# Altium schematic symbol library MSM8916_DRAM_PMIC_REF_Library.SchLib: 235 symbols (part 2 of 2)

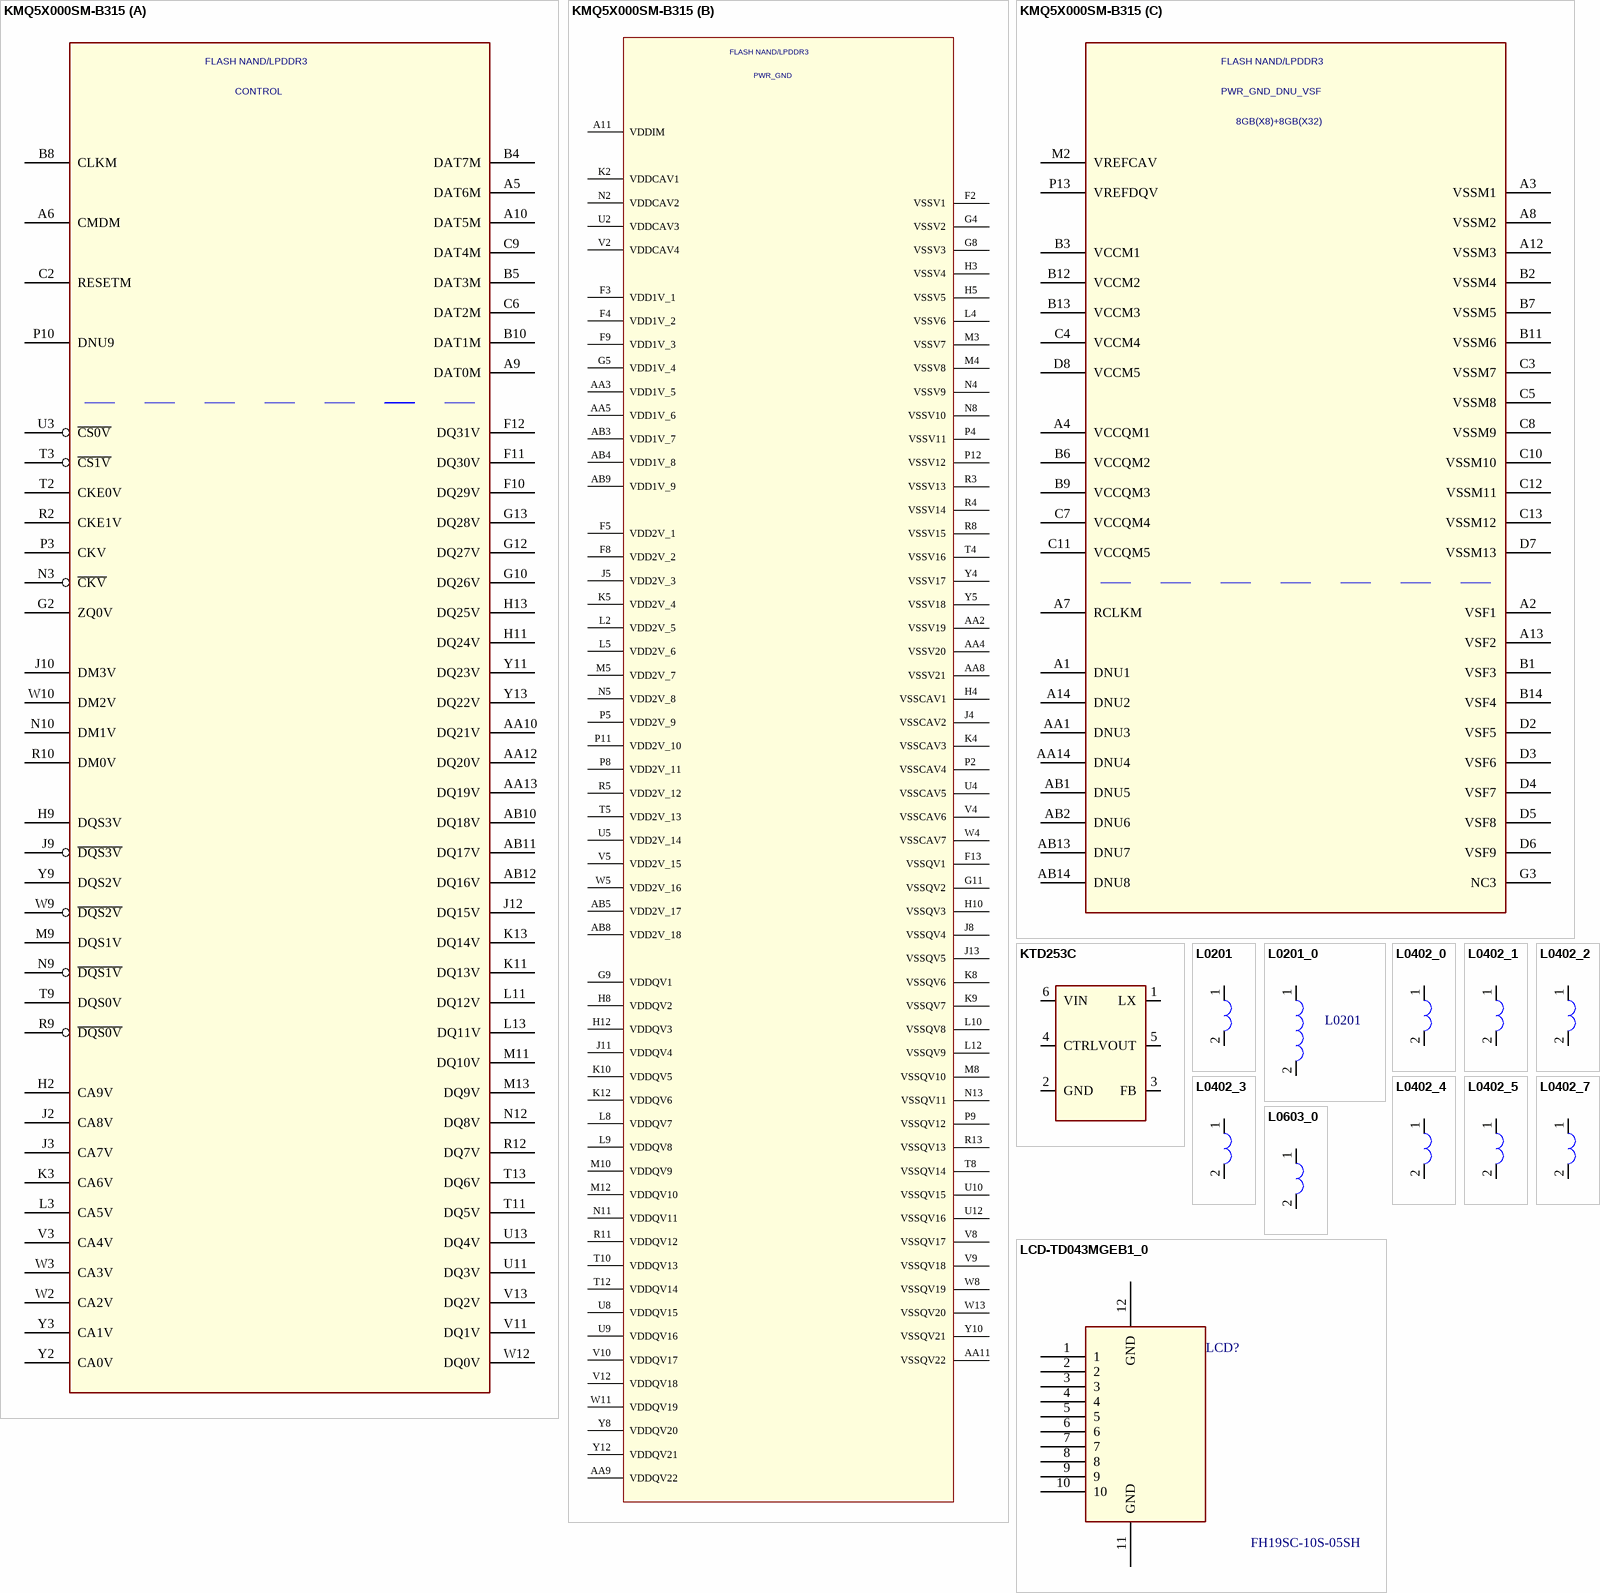
[diagram p23: symbols KMQ5X000SM-B315 to LCD-TD043MGEB1_0]

## KMQ5X000SM-B315
designator U?
footprint KMQ5X000SM-B315
part A pins: A5 DAT6M, A6 CMDM, A9 DAT0M, A10 DAT5M, AA10 DQ21V, AA12 DQ20V, AA13 DQ19V, AB10 DQ18V, AB11 DQ17V, AB12 DQ16V, B4 DAT7M, B5 DAT3M, B8 CLKM, B10 DAT1M, C2 RESETM, C6 DAT2M, C9 DAT4M, F10 DQ29V, F11 DQ30V, F12 DQ31V, G2 ZQ0V, G10 DQ26V, G12 DQ27V, G13 DQ28V, H2 CA9V, H9 DQS3V, H11 DQ24V, H13 DQ25V, J2 CA8V, J3 CA7V, J9 ~{DQS3V}, J10 DM3V, J12 DQ15V, K3 CA6V, K11 DQ13V, K13 DQ14V, L3 CA5V, L11 DQ12V, L13 DQ11V, M9 DQS1V, M11 DQ10V, M13 DQ9V, N3 ~{CKV}, N9 ~{DQS1V}, N10 DM1V, N12 DQ8V, P3 CKV, P10 DNU9, R2 CKE1V, R9 ~{DQS0V}, R10 DM0V, R12 DQ7V, T2 CKE0V, T3 ~{CS1V}, T9 DQS0V, T11 DQ5V, T13 DQ6V, U3 ~{CS0V}, U11 DQ3V, U13 DQ4V, V3 CA4V, V11 DQ1V, V13 DQ2V, W2 CA2V, W3 CA3V, W9 ~{DQS2V}, W10 DM2V, W12 DQ0V, Y2 CA0V, Y3 CA1V, Y9 DQS2V, Y11 DQ23V, Y13 DQ22V
part B pins: A11 VDDIM, AA2 VSSV19, AA3 VDD1V_5, AA4 VSSV20, AA5 VDD1V_6, AA8 VSSV21, AA9 VDDQV22, AA11 VSSQV22, AB3 VDD1V_7, AB4 VDD1V_8, AB5 VDD2V_17, AB8 VDD2V_18, AB9 VDD1V_9, F2 VSSV1, F3 VDD1V_1, F4 VDD1V_2, F5 VDD2V_1, F8 VDD2V_2, F9 VDD1V_3, F13 VSSQV1, G4 VSSV2, G5 VDD1V_4, G8 VSSV3, G9 VDDQV1, G11 VSSQV2, H3 VSSV4, H4 VSSCAV1, H5 VSSV5, H8 VDDQV2, H10 VSSQV3, H12 VDDQV3, J4 VSSCAV2, J5 VDD2V_3, J8 VSSQV4, J11 VDDQV4, J13 VSSQV5, K2 VDDCAV1, K4 VSSCAV3, K5 VDD2V_4, K8 VSSQV6, K9 VSSQV7, K10 VDDQV5, K12 VDDQV6, L2 VDD2V_5, L4 VSSV6, L5 VDD2V_6, L8 VDDQV7, L9 VDDQV8, L10 VSSQV8, L12 VSSQV9, M3 VSSV7, M4 VSSV8, M5 VDD2V_7, M8 VSSQV10, M10 VDDQV9, M12 VDDQV10, N2 VDDCAV2, N4 VSSV9, N5 VDD2V_8, N8 VSSV10, N11 VDDQV11, N13 VSSQV11, P2 VSSCAV4, P4 VSSV11, P5 VDD2V_9, P8 VDD2V_11, P9 VSSQV12, P11 VDD2V_10, P12 VSSV12, R3 VSSV13, R4 VSSV14, R5 VDD2V_12, R8 VSSV15, R11 VDDQV12, R13 VSSQV13, T4 VSSV16, T5 VDD2V_13, T8 VSSQV14, T10 VDDQV13, T12 VDDQV14, U2 VDDCAV3, U4 VSSCAV5, U5 VDD2V_14, U8 VDDQV15, U9 VDDQV16, U10 VSSQV15, U12 VSSQV16, V2 VDDCAV4, V4 VSSCAV6, V5 VDD2V_15, V8 VSSQV17, V9 VSSQV18, V10 VDDQV17, V12 VDDQV18, W4 VSSCAV7, W5 VDD2V_16, W8 VSSQV19, W11 VDDQV19, W13 VSSQV20, Y4 VSSV17, Y5 VSSV18, Y8 VDDQV20, Y10 VSSQV21, Y12 VDDQV21
part C pins: A1 DNU1, A2 VSF1, A3 VSSM1, A4 VCCQM1, A7 RCLKM, A8 VSSM2, A12 VSSM3, A13 VSF2, A14 DNU2, AA1 DNU3, AA14 DNU4, AB1 DNU5, AB2 DNU6, AB13 DNU7, AB14 DNU8, B1 VSF3, B2 VSSM4, B3 VCCM1, B6 VCCQM2, B7 VSSM5, B9 VCCQM3, B11 VSSM6, B12 VCCM2, B13 VCCM3, B14 VSF4, C3 VSSM7, C4 VCCM4, C5 VSSM8, C7 VCCQM4, C8 VSSM9, C10 VSSM10, C11 VCCQM5, C12 VSSM11, C13 VSSM12, D2 VSF5, D3 VSF6, D4 VSF7, D5 VSF8, D6 VSF9, D7 VSSM13, D8 VCCM5, G3 NC3, M2 VREFCAV, P13 VREFDQV
part A text: FLASH NAND/LPDDR3; CONTROL
part B text: FLASH NAND/LPDDR3; PWR_GND
part C text: FLASH NAND/LPDDR3; PWR_GND_DNU_VSF; 8GB(X8)+8GB(X32)

## KTD253C
designator U?
footprint TSOT23-6
pins: 1 LX, 2 GND (power), 3 FB, 4 CTRL, 5 VOUT, 6 VIN (power)

## L0201
designator L?
footprint L0201
pins: 1, 2

## L0201_0
designator L?, comment L0201
pins: 1, 2

## L0402_0
designator L?
footprint L0402
pins: 1, 2

## L0402_1
designator L?
footprint L0402
pins: 1, 2

## L0402_2
designator L?
footprint L0402
pins: 1, 2

## L0402_3
designator L?
footprint L0402
pins: 1, 2

## L0402_4
designator L?
footprint L0402
pins: 1, 2

## L0402_5
designator L?
footprint L0402
pins: 1, 2

## L0402_7
designator L?
footprint L0402
pins: 1, 2

## L0603_0
designator L?
footprint L0603
pins: 1, 2

## LCD-TD043MGEB1_0
designator LCD?, comment FH19SC-10S-05SH
pins: 1 (power), 2 (power), 3, 4 (power), 5, 6 (power), 7 (power), 8 (power), 9 (power), 10 (power), 11 GND (power), 12 GND (power)

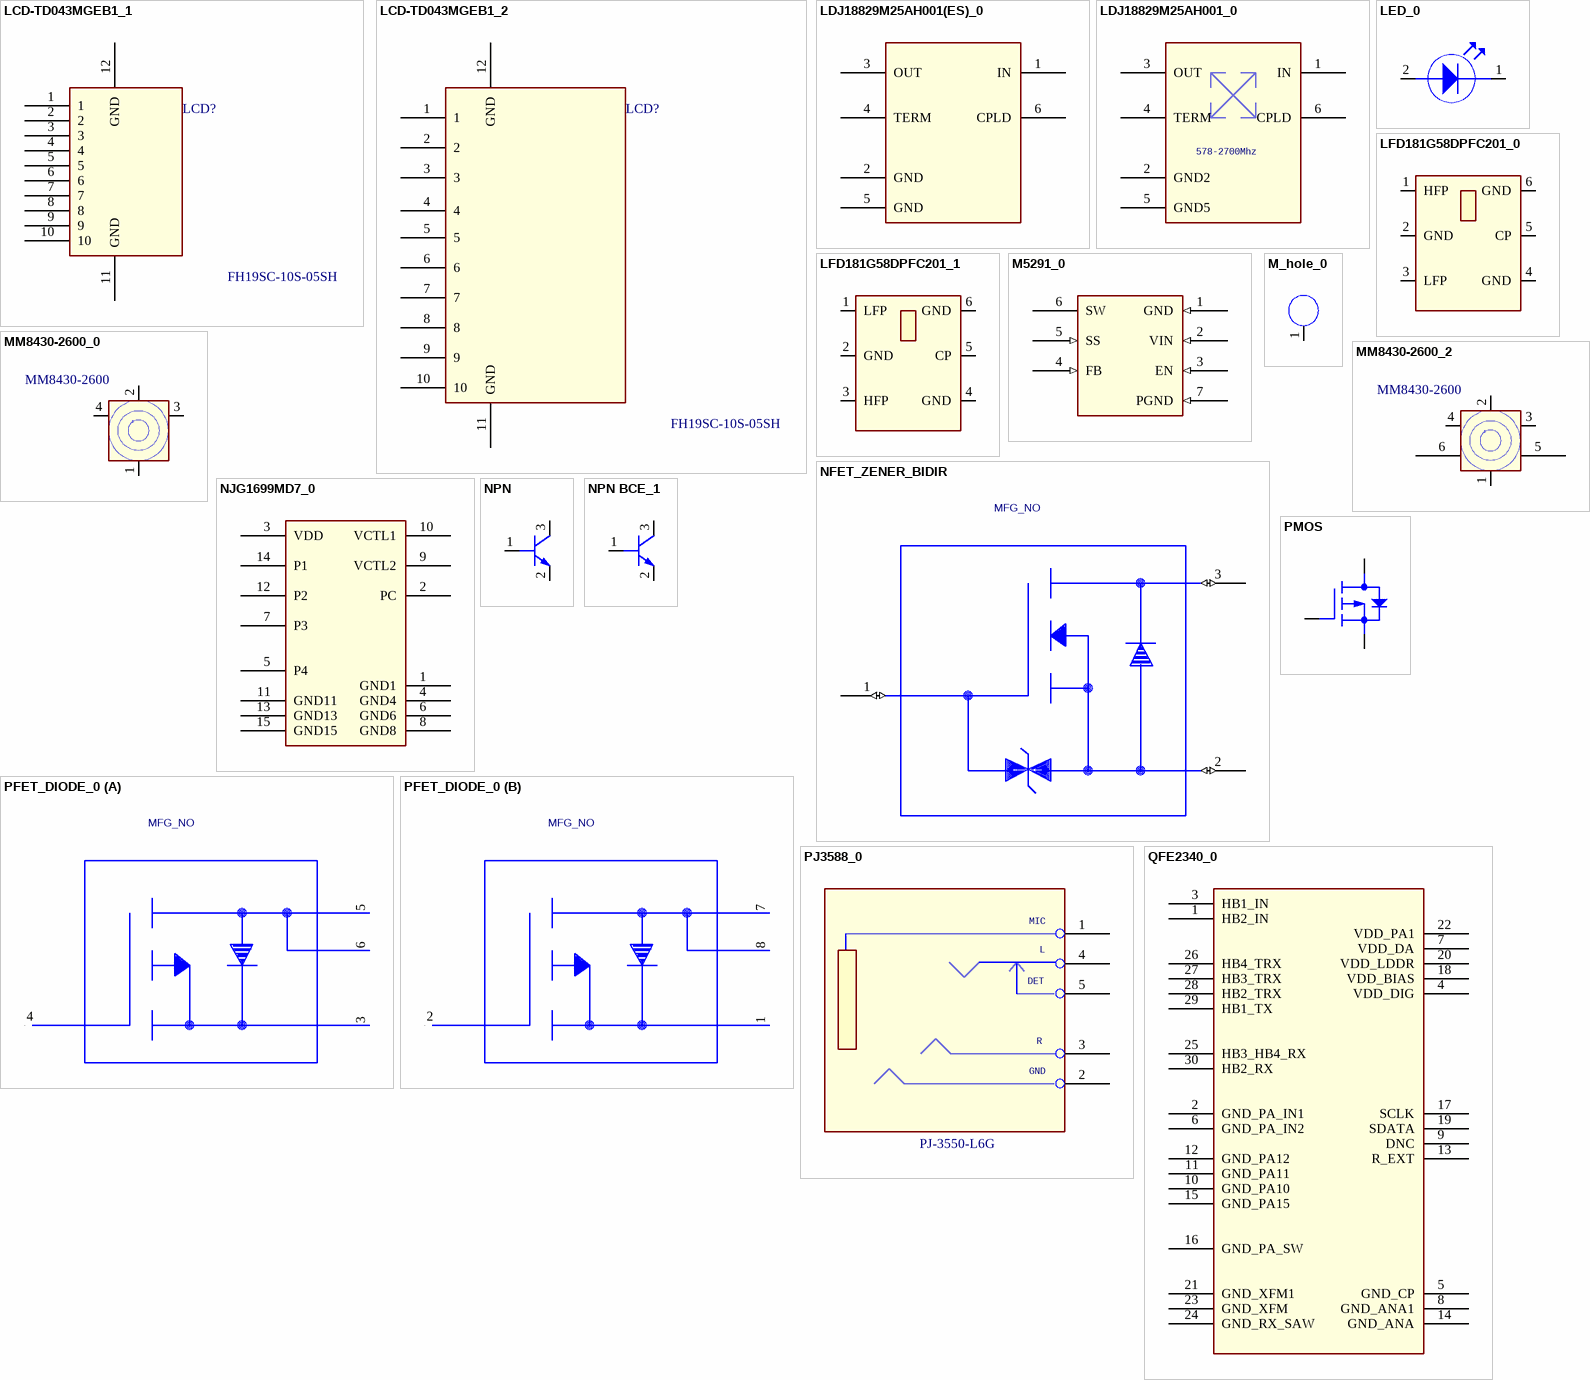
[diagram p24: symbols LCD-TD043MGEB1_1 to QFE2340_0]

## LCD-TD043MGEB1_1
designator LCD?, comment FH19SC-10S-05SH
pins: 1, 2, 3, 4, 5, 6, 7, 8, 9, 10, 11 GND (power), 12 GND (power)

## LCD-TD043MGEB1_2
designator LCD?, comment FH19SC-10S-05SH
pins: 1, 2, 3, 4, 5, 6, 7, 8, 9, 10, 11 GND (power), 12 GND (power)

## LDJ18829M25AH001(ES)_0
designator U?
pins: 1 IN, 2 GND, 3 OUT, 4 TERM, 5 GND, 6 CPLD

## LDJ18829M25AH001_0
designator U?
pins: 1 IN, 2 GND2, 3 OUT, 4 TERM, 5 GND5, 6 CPLD
text: 578-2700Mhz

## LED_0
designator D?
pins: 1 CATHODE, 2 ANODE

## LFD181G58DPFC201_0
designator U?
footprint LFD181G58DPFC201
pins: 1 HFP, 2 GND (power), 3 LFP, 4 GND (power), 5 CP, 6 GND (power)

## LFD181G58DPFC201_1
designator U?
footprint LFD181G58DPFC201
pins: 1 LFP, 2 GND (power), 3 HFP, 4 GND (power), 5 CP, 6 GND (power)

## M5291_0
designator U?
pins: 1 GND (in), 2 VIN (in), 3 EN (in), 4 FB (in), 5 SS (in), 6 SW (oc), 7 PGND (in)

## M_hole_0
designator MH?, comment M_hole  (value not drawn)
footprint SMDPAD_40
pins: 1 TP

## MM8430-2600_0
designator M?, comment MM8430-2600
pins: 1 A, 2 B, 3 GND1, 4 GND2

## MM8430-2600_2
designator M?, comment MM8430-2600
pins: 1 A, 2 B, 3 GND1, 4 GND2, 5 GND3, 6 GND4

## NFET_ZENER_BIDIR
designator REF?, comment PART_ID: MFG_NO  (hidden comment: nfet_zener_bidir)
PART_NUMBER: MCN_NO; OriginalSymbolOrigin: (-525,450); CDS_LMAN_SYM_OUTLINE: -475,450,475,-450; SYMNAME: nfet_zener_bidir; PACK_TYPE: ?
pins: 1 G (io), 2 S (io), 3 D (io)

## NJG1699MD7_0
designator U?
pins: 1 GND1, 2 PC, 3 VDD, 4 GND4, 5 P4, 6 GND6, 7 P3, 8 GND8, 9 VCTL2, 10 VCTL1, 11 GND11, 12 P2, 13 GND13, 14 P1, 15 GND15

## NPN
designator Q?
pins: 1 B, 2 E, 3 C

## NPN BCE_1
designator Q?
pins: 1 B, 2 E, 3 C

## PFET_DIODE_0
designator REF?, comment PART_ID: MFG_NO  (hidden comment: PFET_DIODE_2D1S1G)
PART_NUMBER: MCN_NO; OriginalSymbolOrigin: (-600,350); CDS_LMAN_SYM_OUTLINE: -400,350,375,-325; PACK_TYPE: ?
part A pins: 3 S (io), 4 G (io), 5 D1 (io), 6 D2 (io)
part B pins: 1 S (io), 2 G (io), 7 D1 (io), 8 D2 (io)

## PJ3588_0
designator J?, comment PJ-3550-L6G
footprint PJ3588
pins: 1, 2, 3, 4, 5
text: MIC; L; DET; R; GND

## PMOS
designator Q?
pins: 1 GATE, 2 SOURCE, 3 DRAIN

## QFE2340_0
designator U?
pins: 1 HB2_IN, 2 GND_PA_IN1, 3 HB1_IN, 4 VDD_DIG, 5 GND_CP, 6 GND_PA_IN2, 7 VDD_DA, 8 GND_ANA1, 9 DNC, 10 GND_PA10, 11 GND_PA11, 12 GND_PA12, 13 R_EXT, 14 GND_ANA, 15 GND_PA15, 16 GND_PA_SW, 17 SCLK, 18 VDD_BIAS, 19 SDATA, 20 VDD_LDDR, 21 GND_XFM1, 22 VDD_PA1, 23 GND_XFM, 24 GND_RX_SAW, 25 HB3_HB4_RX, 26 HB4_TRX, 27 HB3_TRX, 28 HB2_TRX, 29 HB1_TX, 30 HB2_RX

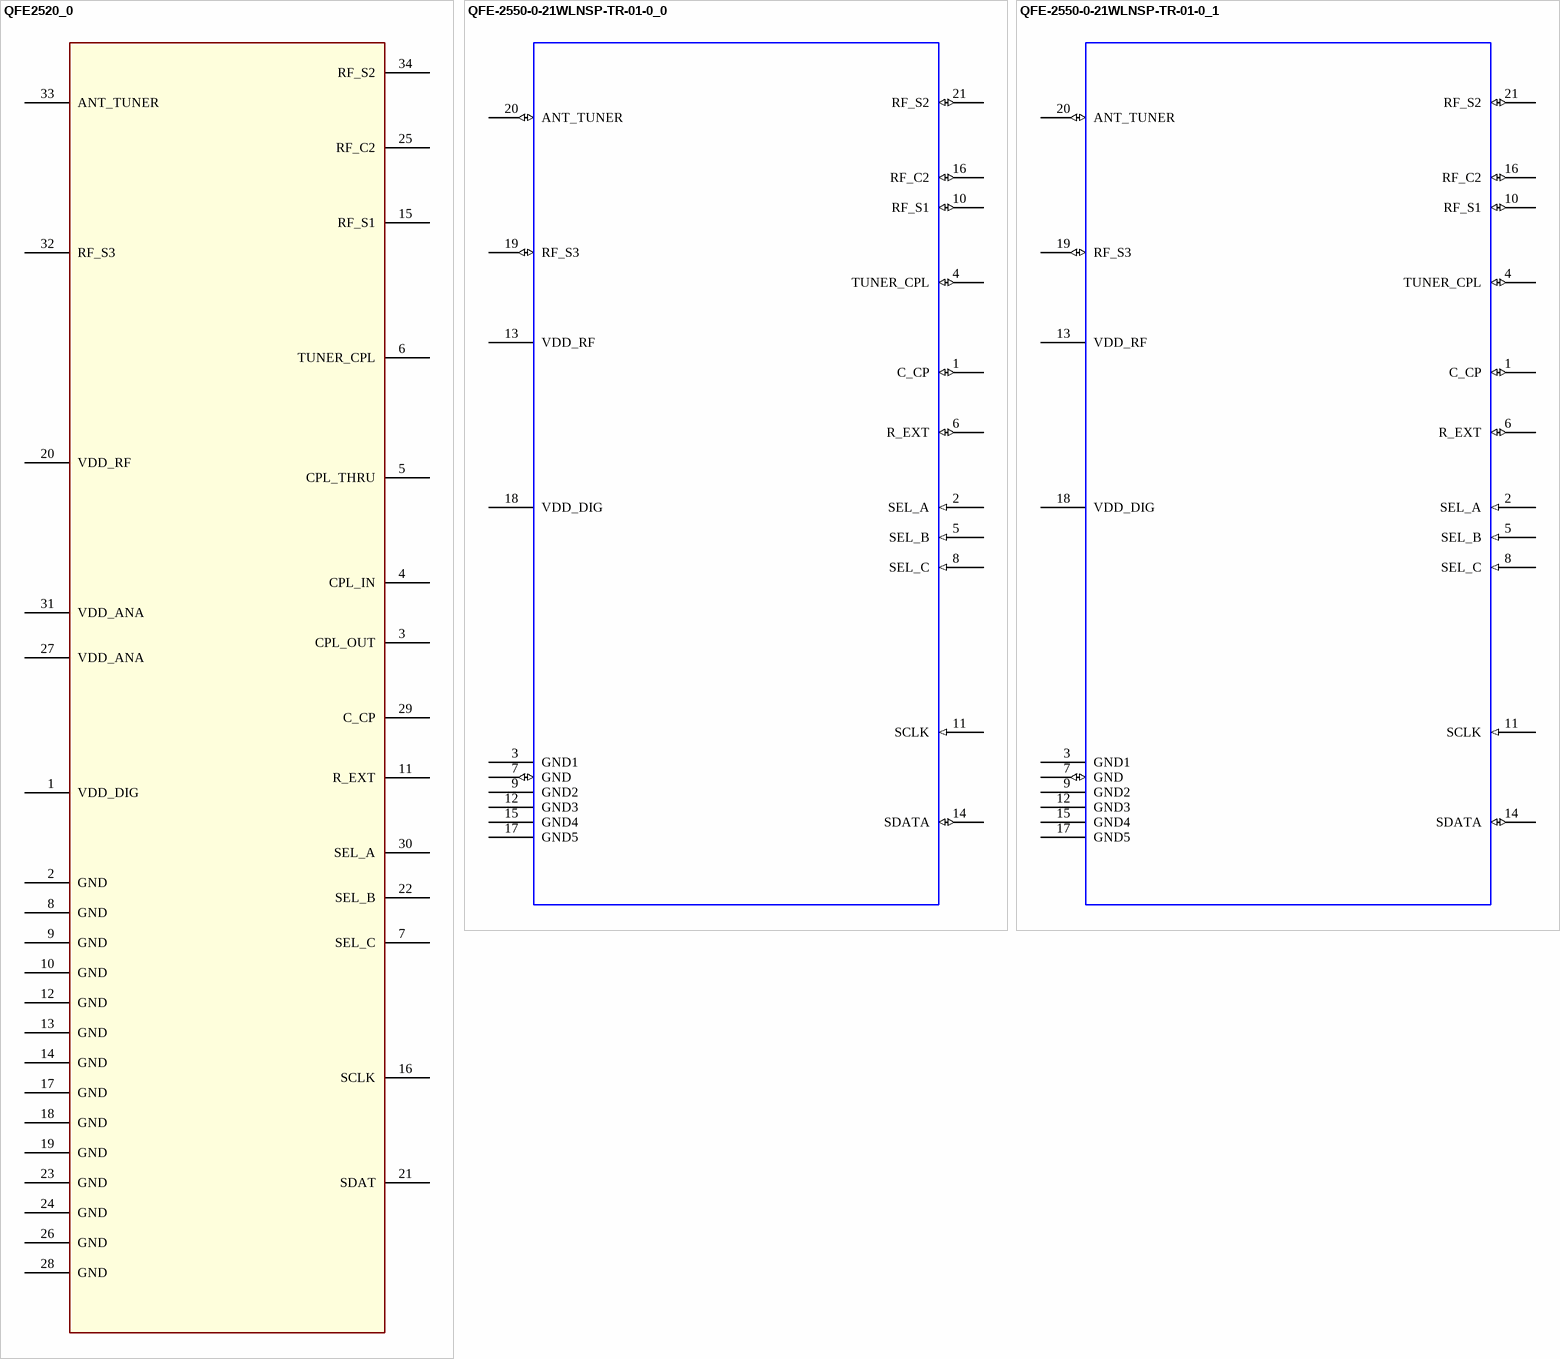
[diagram p25: symbols QFE2520_0 to QFE-2550-0-21WLNSP-TR-01-0_1]

## QFE2520_0
designator U?
footprint 34PGA86X129B
pins: 1 VDD_DIG, 2 GND (power), 3 CPL_OUT, 4 CPL_IN, 5 CPL_THRU, 6 TUNER_CPL, 7 SEL_C, 8 GND (power), 9 GND (power), 10 GND (power), 11 R_EXT, 12 GND (power), 13 GND (power), 14 GND (power), 15 RF_S1, 16 SCLK, 17 GND (power), 18 GND (power), 19 GND (power), 20 VDD_RF, 21 SDAT, 22 SEL_B, 23 GND (power), 24 GND (power), 25 RF_C2, 26 GND (power), 27 VDD_ANA (power), 28 GND (power), 29 C_CP, 30 SEL_A, 31 VDD_ANA (power), 32 RF_S3, 33 ANT_TUNER, 34 RF_S2

## QFE-2550-0-21WLNSP-TR-01-0_0
designator U?
PART_NUMBER: MCN_NO; PART_ID: MFG_NO; SYMNAME: asic_qfe1550_80_nf231_1; $LOCATION: REF?; $PATH: ?; PACK_TYPE: ?
pins: 1 C_CP (io), 2 SEL_A (in), 3 GND1 (power), 4 TUNER_CPL (io), 5 SEL_B (in), 6 R_EXT (io), 7 GND (io), 8 SEL_C (in), 9 GND2 (power), 10 RF_S1 (io), 11 SCLK (in), 12 GND3 (power), 13 VDD_RF (power), 14 SDATA (io), 15 GND4 (power), 16 RF_C2 (io), 17 GND5 (power), 18 VDD_DIG (power), 19 RF_S3 (io), 20 ANT_TUNER (io), 21 RF_S2 (io)

## QFE-2550-0-21WLNSP-TR-01-0_1
designator U?
PART_NUMBER: MCN_NO; PART_ID: MFG_NO; SYMNAME: asic_qfe1550_80_nf231_1; $LOCATION: REF?; $PATH: ?; PACK_TYPE: ?
pins: 1 C_CP (io), 2 SEL_A (in), 3 GND1 (power), 4 TUNER_CPL (io), 5 SEL_B (in), 6 R_EXT (io), 7 GND (io), 8 SEL_C (in), 9 GND2 (power), 10 RF_S1 (io), 11 SCLK (in), 12 GND3 (power), 13 VDD_RF (power), 14 SDATA (io), 15 GND4 (power), 16 RF_C2 (io), 17 GND5 (power), 18 VDD_DIG (power), 19 RF_S3 (io), 20 ANT_TUNER (io), 21 RF_S2 (io)

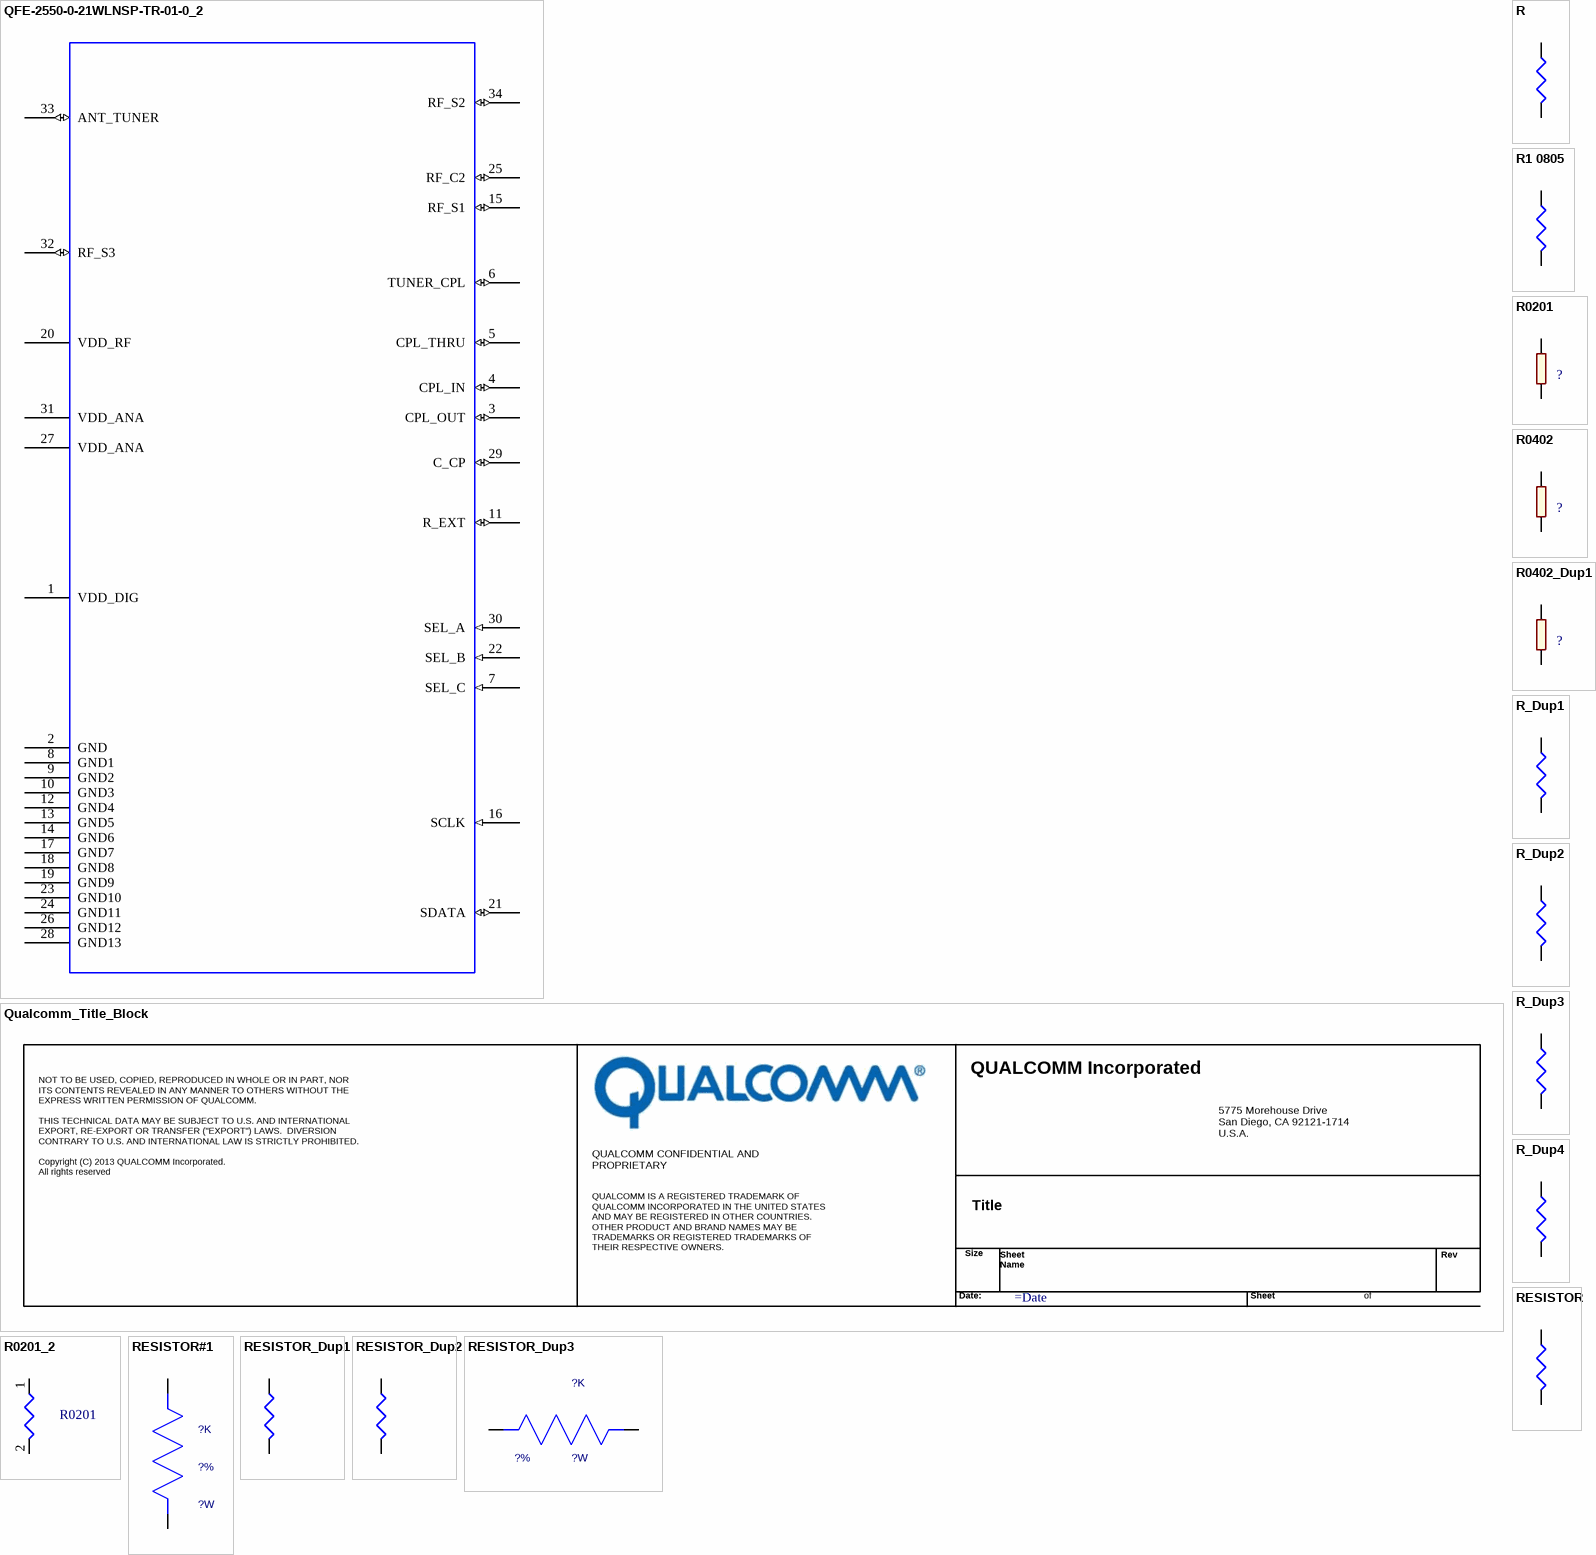
[diagram p26: symbols QFE-2550-0-21WLNSP-TR-01-0_2 to RESISTOR_Dup3]

## QFE-2550-0-21WLNSP-TR-01-0_2
designator U?
PART_NUMBER: MCN_NO; PART_ID: MFG_NO; SYMNAME: asic_qfe1550_80_nf231_1; $LOCATION: REF?; $PATH: ?; PACK_TYPE: ?
pins: 1 VDD_DIG (power), 2 GND (power), 3 CPL_OUT (io), 4 CPL_IN (io), 5 CPL_THRU (io), 6 TUNER_CPL (io), 7 SEL_C (in), 8 GND1 (power), 9 GND2 (power), 10 GND3 (power), 11 R_EXT (io), 12 GND4 (power), 13 GND5 (power), 14 GND6 (power), 15 RF_S1 (io), 16 SCLK (in), 17 GND7 (power), 18 GND8 (power), 19 GND9 (power), 20 VDD_RF (power), 21 SDATA (io), 22 SEL_B (in), 23 GND10 (power), 24 GND11 (power), 25 RF_C2 (io), 26 GND12 (power), 27 VDD_ANA (power), 28 GND13 (power), 29 C_CP (io), 30 SEL_A (in), 31 VDD_ANA (power), 32 RF_S3 (io), 33 ANT_TUNER (io), 34 RF_S2 (io)

## Qualcomm_Title_Block
designator *  (value not drawn)  (graphical)
Page Create Date: January 27, 2012; Page Modify Date: =Date
text: NOT TO BE USED, COPIED, REPRODUCED IN WHOLE OR IN PART, NOR / ITS CONTENTS REVEALED IN ANY MANNER TO OTHERS WITHOUT THE / EXPRESS WRITTEN PERMISSION OF QUALCOMM. / THIS TECHNICAL DATA MAY BE SUBJECT TO U.S. AND INTERNATIONAL / EXPORT, RE-EXPORT OR TRANSFER ("EXPORT") LAWS.  DIVERSION / CONTRARY TO U.S. AND INTERNATIONAL LAW IS STRICTLY PROHIBITED. / Copyright (C) 2013 QUALCOMM Incorporated. / All rights reserved /; QUALCOMM Incorporated; 5775 Morehouse Drive / San Diego, CA 92121-1714 / U.S.A. /; QUALCOMM CONFIDENTIAL AND / PROPRIETARY; QUALCOMM IS A REGISTERED TRADEMARK OF / QUALCOMM INCORPORATED IN THE UNITED STATES / AND MAY BE REGISTERED IN OTHER COUNTRIES. / OTHER PRODUCT AND BRAND NAMES MAY BE / TRADEMARKS OR REGISTERED TRADEMARKS OF / THEIR RESPECTIVE OWNERS.; Title; Sheet / Name; Size; Rev; Date:; Sheet; of

## R
designator R?
pins: 1, 2

## R1 0805
designator R?
footprint 0805
pins: 1, 2

## R0201
designator R?, comment ?
footprint R0201
pins: 1 PIN1, 2 PIN2

## R0201_2
designator R?, comment R0201
pins: 1, 2

## R0402
designator R?, comment ?
footprint R0402
pins: 1 PIN1, 2 PIN2

## R0402_Dup1
designator R?, comment ?
footprint R0402
pins: 1 PIN1, 2 PIN2

## R_Dup1
designator R?
pins: 1, 2

## R_Dup2
designator R?
pins: 1, 2

## R_Dup3
designator R?
pins: 1, 2

## R_Dup4
designator R?
pins: 1, 2

## RESISTOR
designator R?
pins: 1, 2

## RESISTOR#1
designator R?, comment ?K  Tolerance: ?%  POWER: ?W
PART_NUMBER: MCN_NO; PART_ID: MFG_NO; OriginalSymbolOrigin: (-50,200); SYMNAME: resistor; CDS_LMAN_SYM_OUTLINE: -50,150,50,-150; PACK_TYPE: ?
pins: 1 POS (io), 2 NEG (io)

## RESISTOR_Dup1
designator R?
pins: 1, 2

## RESISTOR_Dup2
designator R?
pins: 1, 2

## RESISTOR_Dup3
designator R?, comment ?K  Tolerance: ?%  POWER: ?W
PART_NUMBER: MCN_NO; PART_ID: MFG_NO; OriginalSymbolOrigin: (-200,50); SYMNAME: resistor; CDS_LMAN_SYM_OUTLINE: -150,50,150,-50; PACK_TYPE: ?
pins: 1 POS (io), 2 NEG (io)

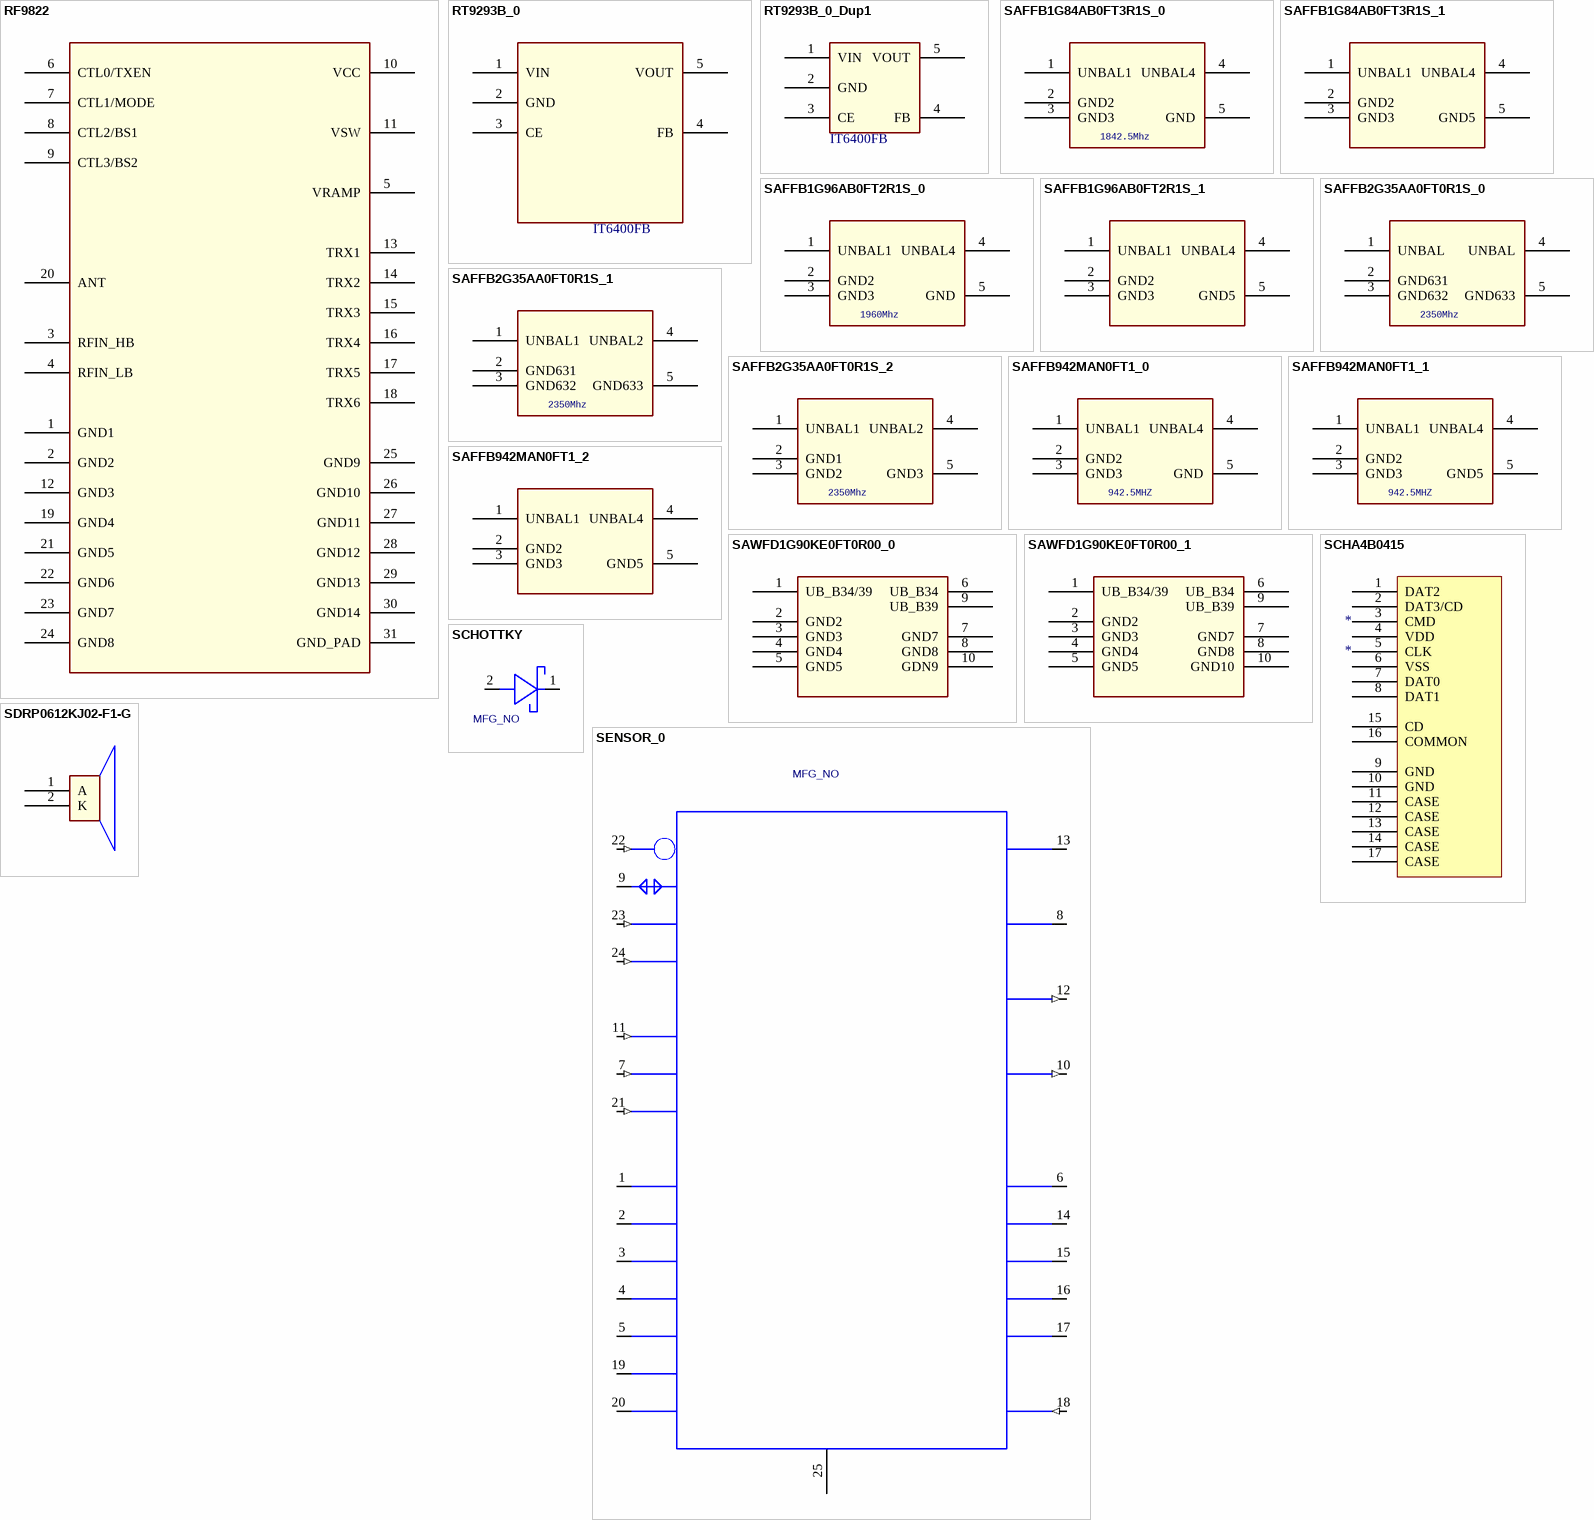
[diagram p27: symbols RF9822 to SENSOR_0]

## RF9822
designator U?
pins: 1 GND1, 2 GND2, 3 RFIN_HB, 4 RFIN_LB, 5 VRAMP, 6 CTL0/TXEN, 7 CTL1/MODE, 8 CTL2/BS1, 9 CTL3/BS2, 10 VCC, 11 VSW, 12 GND3, 13 TRX1, 14 TRX2, 15 TRX3, 16 TRX4, 17 TRX5, 18 TRX6, 19 GND4, 20 ANT, 21 GND5, 22 GND6, 23 GND7, 24 GND8, 25 GND9, 26 GND10, 27 GND11, 28 GND12, 29 GND13, 30 GND14, 31 GND_PAD

## RT9293B_0
designator U?, comment IT6400FB
footprint TSOT-23-6
pins: 1 VIN, 2 GND, 3 CE, 4 FB, 5 VOUT

## RT9293B_0_Dup1
designator U?, comment IT6400FB
footprint TSOT-23-6
pins: 1 VIN, 2 GND, 3 CE, 4 FB, 5 VOUT

## SAFFB1G84AB0FT3R1S_0
designator U?
pins: 1 UNBAL1, 2 GND2, 3 GND3, 4 UNBAL4, 5 GND
text: 1842.5Mhz

## SAFFB1G84AB0FT3R1S_1
designator U?
pins: 1 UNBAL1, 2 GND2, 3 GND3, 4 UNBAL4, 5 GND5

## SAFFB1G96AB0FT2R1S_0
designator U?
pins: 1 UNBAL1, 2 GND2, 3 GND3, 4 UNBAL4, 5 GND
text: 1960Mhz

## SAFFB1G96AB0FT2R1S_1
designator U?
pins: 1 UNBAL1, 2 GND2, 3 GND3, 4 UNBAL4, 5 GND5

## SAFFB2G35AA0FT0R1S_0
designator U?
pins: 1 UNBAL, 2 GND631, 3 GND632, 4 UNBAL, 5 GND633
text: 2350Mhz

## SAFFB2G35AA0FT0R1S_1
designator U?
pins: 1 UNBAL1, 2 GND631, 3 GND632, 4 UNBAL2, 5 GND633
text: 2350Mhz

## SAFFB2G35AA0FT0R1S_2
designator U?
pins: 1 UNBAL1, 2 GND1, 3 GND2, 4 UNBAL2, 5 GND3
text: 2350Mhz

## SAFFB942MAN0FT1_0
designator U?
pins: 1 UNBAL1, 2 GND2, 3 GND3, 4 UNBAL4, 5 GND
text: 942.5MHZ

## SAFFB942MAN0FT1_1
designator U?
pins: 1 UNBAL1, 2 GND2, 3 GND3, 4 UNBAL4, 5 GND5
text: 942.5MHZ

## SAFFB942MAN0FT1_2
designator U?
pins: 1 UNBAL1, 2 GND2, 3 GND3, 4 UNBAL4, 5 GND5

## SAWFD1G90KE0FT0R00_0
designator U?
pins: 1 UB_B34/39, 2 GND2, 3 GND3, 4 GND4, 5 GND5, 6 UB_B34, 7 GND7, 8 GND8, 9 UB_B39, 10 GDN9

## SAWFD1G90KE0FT0R00_1
designator U?
pins: 1 UB_B34/39, 2 GND2, 3 GND3, 4 GND4, 5 GND5, 6 UB_B34, 7 GND7, 8 GND8, 9 UB_B39, 10 GND10

## SCHA4B0415
designator *
pins: 1 DAT2, 2 DAT3/CD, 3 CMD, 4 VDD, 5 CLK, 6 VSS, 7 DAT0, 8 DAT1, 9 GND, 10 GND, 11 CASE, 12 CASE, 13 CASE, 14 CASE, 15 CD, 16 COMMON, 17 CASE

## SCHOTTKY
designator REF?  PART_ID: MFG_NO  (hidden comment: SCHOTTKY)
PART_NUMBER: MCN_NO; OriginalSymbolOrigin: (-100,100); CDS_LMAN_SYM_OUTLINE: -50,75,50,-75; SYMNAME: SCHOTTKY; PACK_TYPE: ?
pins: 1 NEG (io), 2 POS (io)

## SDRP0612KJ02-F1-G
designator J?
footprint SDRP0612KJ02-F1-G
pins: 1 A, 2 K

## SENSOR_0
designator REF?, comment PART_ID: MFG_NO  (hidden comment: sensor_6880)
PART_NUMBER: MCN_NO; OriginalSymbolOrigin: (-700,1125); CDS_LMAN_SYM_OUTLINE: -550,1125,550,-1000; SYMNAME: sensor_6880; PACK_TYPE: ?
pins: 1 NC1 (io), 2 NC2 (io), 3 NC3 (io), 4 NC4 (io), 5 NC5 (io), 6 NC6 (io), 7 AUX_CL (in), 8 VDDIO (power), 9 SDO_AD0 (io), 10 REGOUT (out), 11 FSYNC (in), 12 INT (out), 13 VDD (power), 14 NC7 (io), 15 NC8 (io), 16 NC9 (io), 17 NC10 (io), 18 GND (in), 19 RESV2 (io), 20 RESV1 (io), 21 AUX_DA (in), 22 NCS (in), 23 SCL_SCLK (in), 24 SDA_SDI (in), 25 GND2

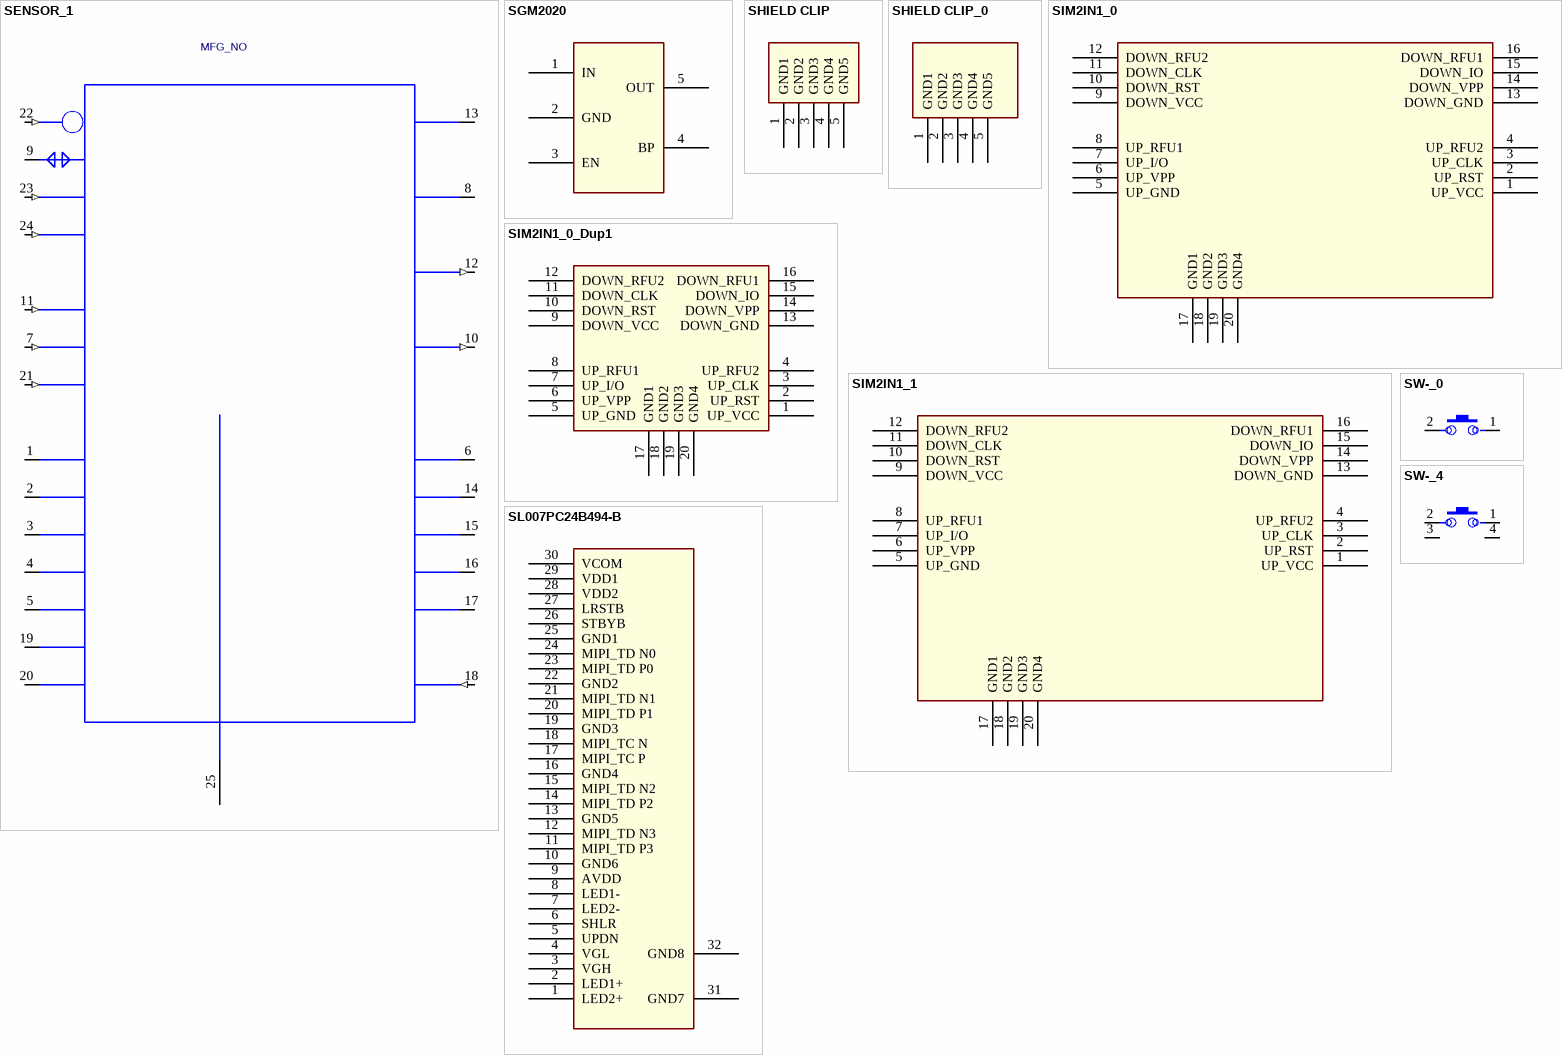
[diagram p28: symbols SENSOR_1 to SW-_4]

## SENSOR_1
designator REF?, comment PART_ID: MFG_NO  (hidden comment: sensor_6880)
PART_NUMBER: MCN_NO; CDS_LMAN_SYM_OUTLINE: -550,1125,550,-1000; OriginalSymbolOrigin: (-700,1125); PACK_TYPE: ?; SYMNAME: sensor_6880
pins: 1 NC1 (io), 2 NC2 (io), 3 NC3 (io), 4 NC4 (io), 5 NC5 (io), 6 NC6 (io), 7 AUX_CL (in), 8 VDDIO (power), 9 SDO_AD0 (io), 10 REGOUT (out), 11 FSYNC (in), 12 INT (out), 13 VDD (power), 14 NC7 (io), 15 NC8 (io), 16 NC9 (io), 17 NC10 (io), 18 GND (in), 19 RESV2 (io), 20 RESV1 (io), 21 AUX_DA (in), 22 NCS (in), 23 SCL_SCLK (in), 24 SDA_SDI (in), 25 GND2

## SGM2020
designator U?
footprint SGM2020
pins: 1 IN, 2 GND, 3 EN, 4 BP, 5 OUT

## SHIELD CLIP
designator J?
footprint ELJ-KS270013
pins: 1 GND1, 2 GND2, 3 GND3, 4 GND4, 5 GND5

## SHIELD CLIP_0
designator J?
footprint ELJ-KS270013
pins: 1 GND1, 2 GND2, 3 GND3, 4 GND4, 5 GND5

## SIM2IN1_0
designator J?
footprint V30SIM_H3_0MM_
pins: 1 UP_VCC, 2 UP_RST, 3 UP_CLK, 4 UP_RFU2, 5 UP_GND, 6 UP_VPP, 7 UP_I/O, 8 UP_RFU1, 9 DOWN_VCC, 10 DOWN_RST, 11 DOWN_CLK, 12 DOWN_RFU2, 13 DOWN_GND, 14 DOWN_VPP, 15 DOWN_IO, 16 DOWN_RFU1, 17 GND1, 18 GND2, 19 GND3, 20 GND4

## SIM2IN1_0_Dup1
designator J?
footprint V30SIM_H3_0MM_
pins: 1 UP_VCC, 2 UP_RST, 3 UP_CLK, 4 UP_RFU2, 5 UP_GND, 6 UP_VPP, 7 UP_I/O, 8 UP_RFU1, 9 DOWN_VCC, 10 DOWN_RST, 11 DOWN_CLK, 12 DOWN_RFU2, 13 DOWN_GND, 14 DOWN_VPP, 15 DOWN_IO, 16 DOWN_RFU1, 17 GND1, 18 GND2, 19 GND3, 20 GND4

## SIM2IN1_1
designator J?
footprint V30SIM_H3_0MM_
pins: 1 UP_VCC, 2 UP_RST, 3 UP_CLK, 4 UP_RFU2, 5 UP_GND, 6 UP_VPP, 7 UP_I/O, 8 UP_RFU1, 9 DOWN_VCC, 10 DOWN_RST, 11 DOWN_CLK, 12 DOWN_RFU2, 13 DOWN_GND, 14 DOWN_VPP, 15 DOWN_IO, 16 DOWN_RFU1, 17 GND1, 18 GND2, 19 GND3, 20 GND4

## SL007PC24B494-B
designator J?
footprint ELJ_L50130_30PIN_0_5PJ_H2_0
pins: 1 LED2+, 2 LED1+, 3 VGH, 4 VGL, 5 UPDN, 6 SHLR, 7 LED2-, 8 LED1-, 9 AVDD, 10 GND6, 11 MIPI_TD P3, 12 MIPI_TD N3, 13 GND5, 14 MIPI_TD P2, 15 MIPI_TD N2, 16 GND4, 17 MIPI_TC P, 18 MIPI_TC N, 19 GND3, 20 MIPI_TD P1, 21 MIPI_TD N1, 22 GND2, 23 MIPI_TD P0, 24 MIPI_TD N0, 25 GND1, 26 STBYB, 27 LRSTB, 28 VDD2, 29 VDD1, 30 VCOM, 31 GND7, 32 GND8

## SW-_0
designator S?
footprint KEY0.3
pins: 1, 2

## SW-_4
designator S?
footprint KEY0.3
pins: 1, 2, 3, 4

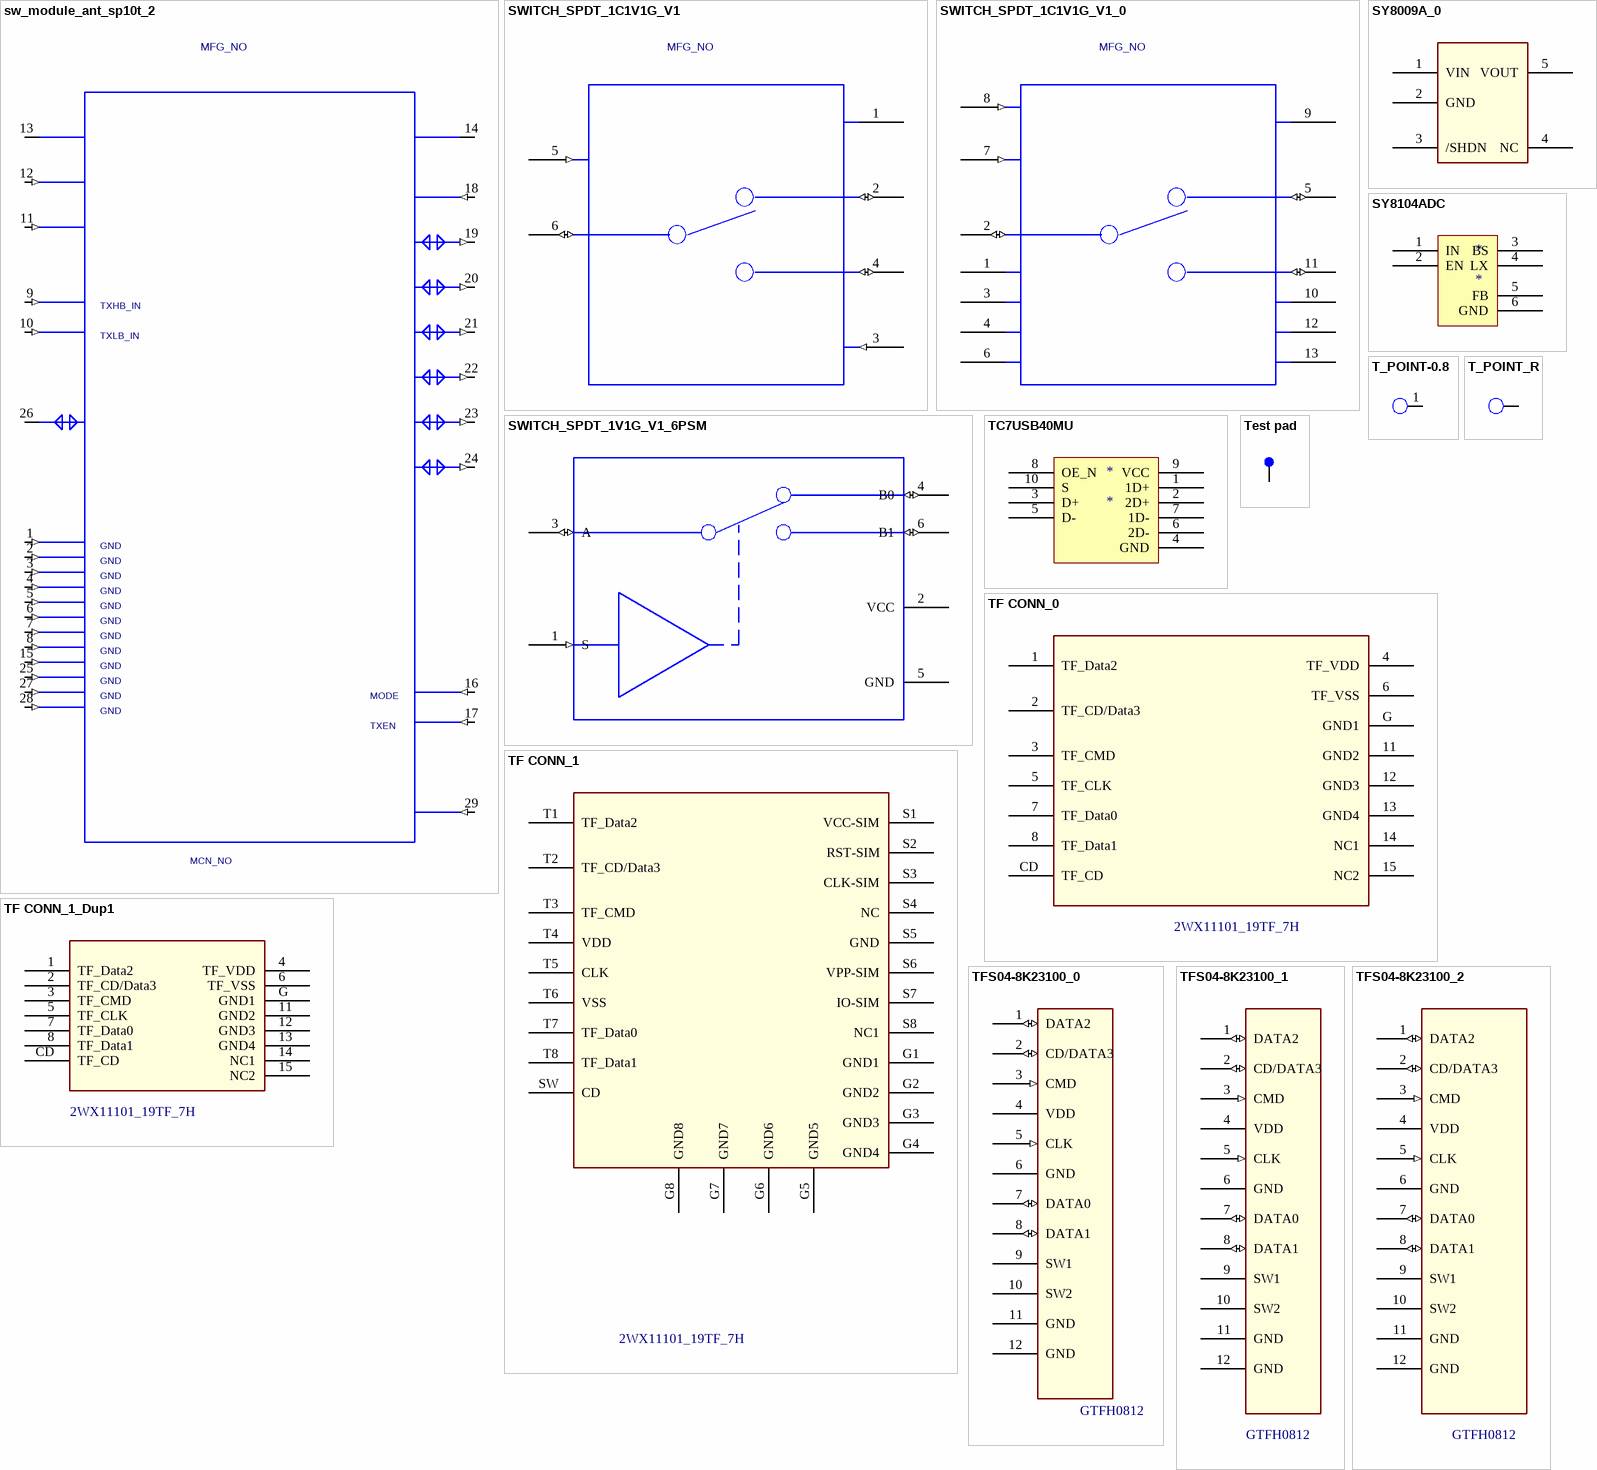
[diagram p29: symbols sw_module_ant_sp10t_2 to TFS04-8K23100_2]

## sw_module_ant_sp10t_2
designator REF?, comment PART_ID: MFG_NO  PART_NUMBER: MCN_NO  (hidden comment: SWITCH, RF SP10T DIVERSITY WITH MIPI ROHS)
CDS_LMAN_SYM_OUTLINE: -550,1375,550,-1125; SYMNAME: sw_module_ant_sp10t_1p4g1slg; OriginalSymbolOrigin: (-700,1375); PACK_TYPE: ?
footprint 21PSM96X96N157
pins: 1 GND1 (in), 2 GND2 (in), 3 GND3 (in), 4 GND4 (in), 5 GND5 (in), 6 GND6 (in), 7 GND7 (in), 8 GND8 (in), 9 TXHB_IN (in), 10 TXLB_IN (in), 11 BS2 (in), 12 BS1 (in), 13 VBATT (power), 14 VCC (power), 15 GND9 (in), 16 MODE (in), 17 TXEN (in), 18 VRAMP (in), 19 RF1 (out), 20 RF2 (out), 21 RF3 (out), 22 RF4 (out), 23 RF5 (out), 24 RF6 (out), 25 GND10 (in), 26 ANT (io), 27 GND11 (in), 28 GND12 (in), 29 GNDSLUG (in)
text: GND

## SWITCH_SPDT_1C1V1G_V1
designator REF?, comment PART_ID: MFG_NO  (hidden comment: switch_spdt_1c1v1g_v1)
PART_NUMBER: MCN_NO; OriginalSymbolOrigin: (-475,525); CDS_LMAN_SYM_OUTLINE: -425,500,425,-500; SYMNAME: switch_spdt_1c1v1g_v1; PACK_TYPE: ?
pins: 1 VDD (power), 2 P1 (io), 3 GND (in), 4 P2 (io), 5 VCTL (in), 6 PC (io)

## SWITCH_SPDT_1C1V1G_V1_0
designator REF?, comment PART_ID: MFG_NO  (hidden comment: switch_spdt_1c1v1g_v1)
PART_NUMBER: MCN_NO; OriginalSymbolOrigin: (-475,525); CDS_LMAN_SYM_OUTLINE: -425,500,425,-500; SYMNAME: switch_spdt_1c1v1g_v1; PACK_TYPE: ?
pins: 1 GND (power), 2 PC (io), 3 GND (power), 4 GND (power), 5 P1 (io), 6 GND (power), 7 VCTL (in), 8 EN (in), 9 VDD (power), 10 GND (power), 11 RF2 (io), 12 GND (power), 13 GND (power)

## SWITCH_SPDT_1V1G_V1_6PSM
designator U?
PART_ID: MFG_NO; PART_NUMBER: MCN_NO; $LOCATION: REF?; SYMNAME: switch_spdt_1v1g_v1; $PATH: ?; PACK_TYPE: ?
pins: 1 S (in), 2 VCC (power), 3 A (io), 4 B0 (io), 5 GND (power), 6 B1 (io)

## SY8009A_0
designator U?
footprint SOT23-5
pins: 1 VIN (power), 2 GND (power), 3 /SHDN, 4 NC, 5 VOUT

## SY8104ADC
designator *
pins: 1 IN, 2 EN, 3 BS, 4 LX, 5 FB, 6 GND

## T_POINT-0.8
designator TP?  (value not drawn)
Test point Pads 0.8mm; Reference Price: $0; Package: TP_08
footprint TP_08
pins: 1 TP

## T_POINT_R
designator TP?
pins: 1 TP

## TC7USB40MU
designator *
pins: 1 1D+, 2 2D+, 3 D+, 4 GND, 5 D-, 6 2D-, 7 1D-, 8 OE_N, 9 VCC, 10 S

## Test pad
designator TP?  (value not drawn)
pins: 1 Pin1

## TF CONN_0
designator CON?, comment 2WX11101_19TF_7H
CONN,I/O,Flash Memory Card,R/A,Bla,0.9mm,10u,G,SMD-8; Part Number: 340438J00-600-G; Mfr.: FOXCONN; PCB Footprint: sd_cardh19; Level: ?; Part Type: connector; Source: ?; Mfr.PartNumber: 2WX11101_19TF_7H; No Stuff: ?; Bottom: ?; Top: ?
footprint ELJ_YHTKP-1915-W_PHS_H1_9
pins: 1 TF_Data2, 2 TF_CD/Data3, 3 TF_CMD, 4 TF_VDD, 5 TF_CLK, 6 TF_VSS, 7 TF_Data0, 8 TF_Data1, 11 GND2, 12 GND3, 13 GND4, 14 NC1, 15 NC2, CD TF_CD, G GND1

## TF CONN_1
designator CON?, comment 2WX11101_19TF_7H
CONN,I/O,Flash Memory Card,R/A,Bla,0.9mm,10u,G,SMD-8; Part Number: 340438J00-600-G; Mfr.: FOXCONN; PCB Footprint: sd_cardh19; Level: ?; Part Type: connector; Source: ?; Mfr.PartNumber: 2WX11101_19TF_7H; No Stuff: ?; Bottom: ?; Top: ?
footprint ELJ_YHTKP-1915-W_PHS_H1_9
pins: G1 GND1, G2 GND2, G3 GND3, G4 GND4, G5 GND5, G6 GND6, G7 GND7, G8 GND8, S1 VCC-SIM, S2 RST-SIM, S3 CLK-SIM, S4 NC, S5 GND, S6 VPP-SIM, S7 IO-SIM, S8 NC1, SW CD, T1 TF_Data2, T2 TF_CD/Data3, T3 TF_CMD, T4 VDD, T5 CLK, T6 VSS, T7 TF_Data0, T8 TF_Data1

## TF CONN_1_Dup1
designator CON?, comment 2WX11101_19TF_7H
CONN,I/O,Flash Memory Card,R/A,Bla,0.9mm,10u,G,SMD-8; Part Number: 340438J00-600-G; Mfr.: FOXCONN; PCB Footprint: sd_cardh19; Level: ?; Part Type: connector; Source: ?; Mfr.PartNumber: 2WX11101_19TF_7H; No Stuff: ?; Bottom: ?; Top: ?
footprint ELJ_YHTKP-1915-W_PHS_H1_9
pins: 1 TF_Data2, 2 TF_CD/Data3, 3 TF_CMD, 4 TF_VDD, 5 TF_CLK, 6 TF_VSS, 7 TF_Data0, 8 TF_Data1, 11 GND2, 12 GND3, 13 GND4, 14 NC1, 15 NC2, CD TF_CD, G GND1

## TFS04-8K23100_0
designator J?, comment GTFH0812
footprint TFS04-8K23100
pins: 1 DATA2 (io), 2 CD/DATA3 (io), 3 CMD (in), 4 VDD (power), 5 CLK (in), 6 GND (power), 7 DATA0 (io), 8 DATA1 (io), 9 SW1, 10 SW2, 11 GND (power), 12 GND (power)

## TFS04-8K23100_1
designator J?, comment GTFH0812
footprint TFS04-8K23100
pins: 1 DATA2 (io), 2 CD/DATA3 (io), 3 CMD (in), 4 VDD (power), 5 CLK (in), 6 GND (power), 7 DATA0 (io), 8 DATA1 (io), 9 SW1, 10 SW2, 11 GND (power), 12 GND (power)

## TFS04-8K23100_2
designator J?, comment GTFH0812
footprint TFS04-8K23100
pins: 1 DATA2 (io), 2 CD/DATA3 (io), 3 CMD (in), 4 VDD (power), 5 CLK (in), 6 GND (power), 7 DATA0 (io), 8 DATA1 (io), 9 SW1, 10 SW2, 11 GND (power), 12 GND (power)

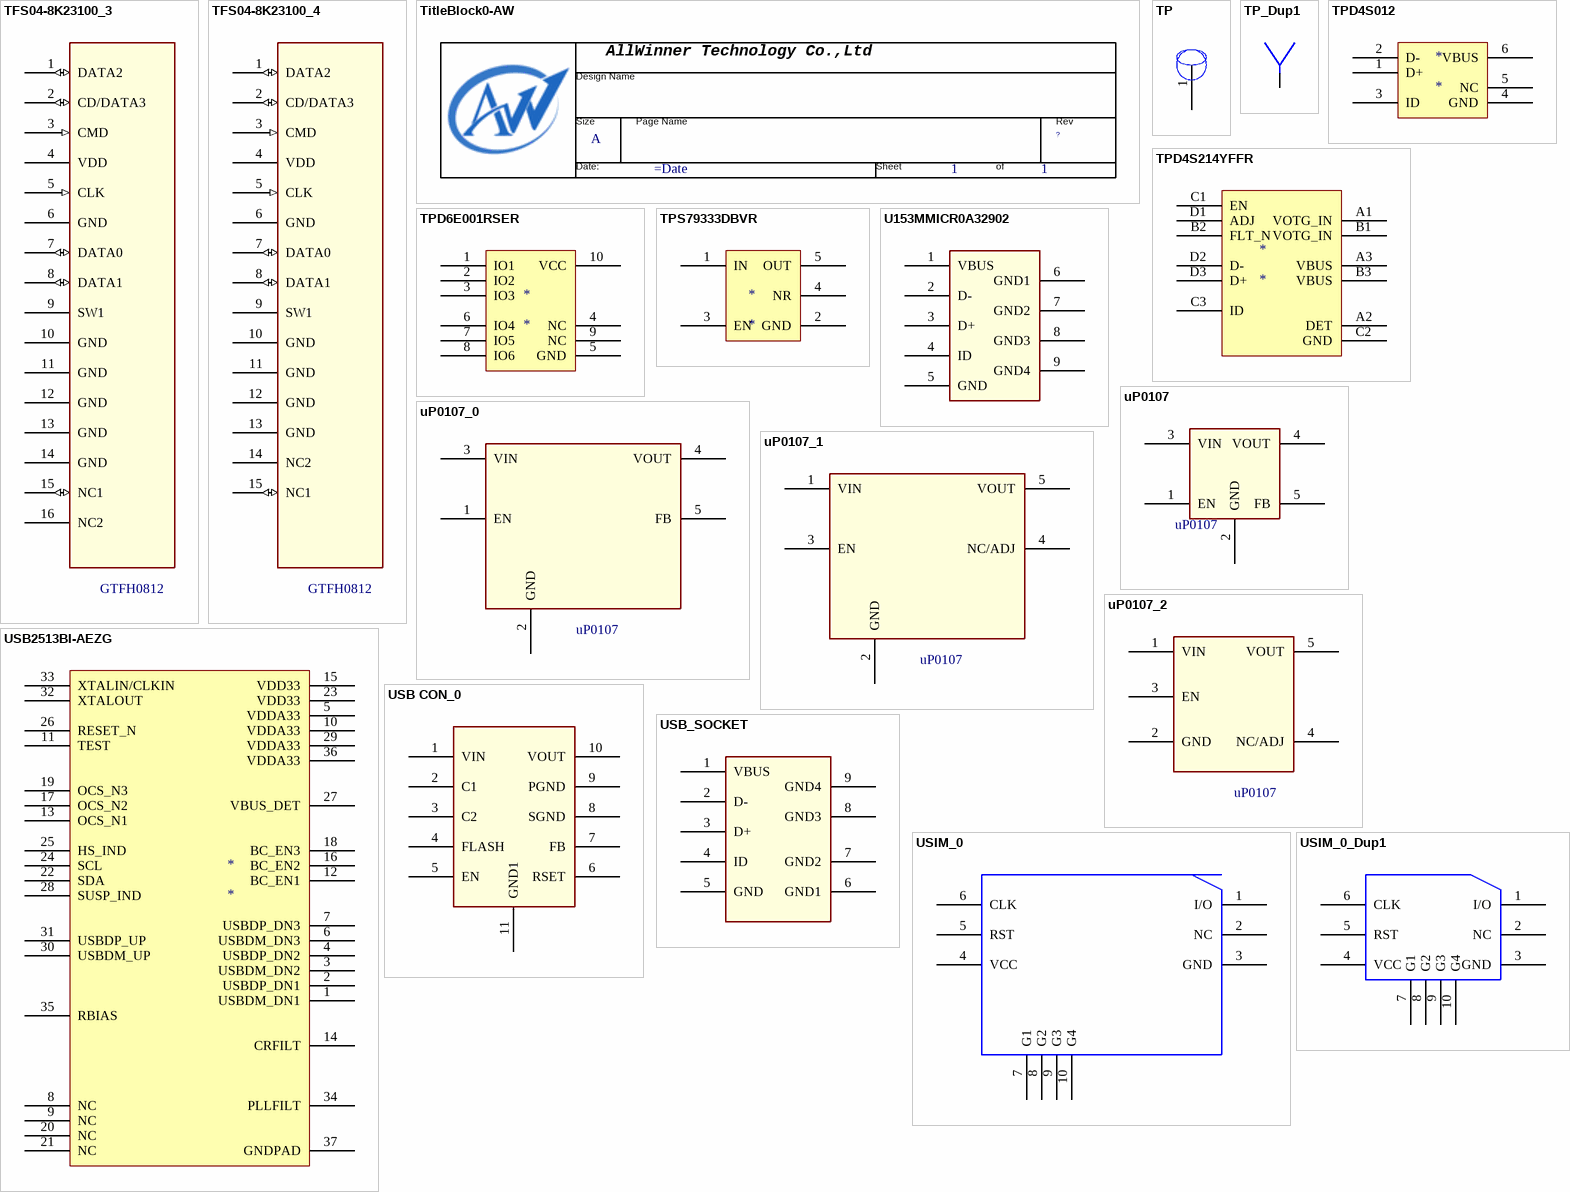
[diagram p30: symbols TFS04-8K23100_3 to USIM_0_Dup1]

## TFS04-8K23100_3
designator J?, comment GTFH0812
footprint TFS04-8K23100
pins: 1 DATA2 (io), 2 CD/DATA3 (io), 3 CMD (in), 4 VDD (power), 5 CLK (in), 6 GND (power), 7 DATA0 (io), 8 DATA1 (io), 9 SW1, 10 GND (power), 11 GND (power), 12 GND (power), 13 GND (power), 14 GND (power), 15 NC1 (io), 16 NC2

## TFS04-8K23100_4
designator J?, comment GTFH0812
footprint TFS04-8K23100
pins: 1 DATA2 (io), 2 CD/DATA3 (io), 3 CMD (in), 4 VDD (power), 5 CLK (in), 6 GND (power), 7 DATA0 (io), 8 DATA1 (io), 9 SW1, 10 GND (power), 11 GND (power), 12 GND (power), 13 GND (power), 14 NC2, 15 NC1 (io)

## TitleBlock0-AW
designator *  Page Count: 1  Page Size: A  (hidden comment: *)  (graphical)
Page Create Date: March  8, 1995; Page Number: 1; RevCode: ?; Page Modify Date: =Date
text: AllWinner Technology Co.,Ltd; Design Name; Size; Page Name; Rev; Date:; Sheet; of

## TP
designator TP?, comment ?  (value not drawn)
footprint TP
pins: 1

## TP_Dup1
designator REF?, comment TP  (value not drawn)
PART_NUMBER: MCN_NO; PART_ID: MFG_NO; OriginalSymbolOrigin: (-50,75); CDS_LMAN_SYM_OUTLINE: -50,75,50,0; SYMNAME: TP; PACK_TYPE: TP
pins: 1 IO1 (io)

## TPD4S012
designator *
pins: 1 D+, 2 D-, 3 ID, 4 GND, 5 NC, 6 VBUS

## TPD4S214YFFR
designator *
pins: A1 VOTG_IN, A2 DET, A3 VBUS, B1 VOTG_IN, B2 FLT_N, B3 VBUS, C1 EN, C2 GND, C3 ID, D1 ADJ, D2 D-, D3 D+

## TPD6E001RSER
designator *
pins: 1 IO1, 2 IO2, 3 IO3, 4 NC, 5 GND, 6 IO4, 7 IO5, 8 IO6, 9 NC, 10 VCC

## TPS79333DBVR
designator *
pins: 1 IN, 2 GND, 3 EN, 4 NR, 5 OUT

## U153MMICR0A32902
designator CON?
footprint micro_usb-c0_95xL
pins: 1 VBUS, 2 D-, 3 D+, 4 ID, 5 GND, 6 GND1, 7 GND2, 8 GND3, 9 GND4

## uP0107
designator U?
footprint SOT23-5
pins: 1 EN, 2 GND, 3 VIN, 4 VOUT, 5 FB

## uP0107_0
designator U?, comment uP0107
footprint SOT23-5
pins: 1 EN, 2 GND, 3 VIN, 4 VOUT, 5 FB

## uP0107_1
designator U?, comment uP0107
footprint SOT23-5
pins: 1 VIN, 2 GND, 3 EN, 4 NC/ADJ, 5 VOUT

## uP0107_2
designator U?, comment uP0107
footprint SOT23-5
pins: 1 VIN, 2 GND, 3 EN, 4 NC/ADJ, 5 VOUT

## USB2513BI-AEZG
designator *
pins: 1 USBDM_DN1, 2 USBDP_DN1, 3 USBDM_DN2, 4 USBDP_DN2, 5 VDDA33, 6 USBDM_DN3, 7 USBDP_DN3, 8 NC, 9 NC, 10 VDDA33, 11 TEST, 12 BC_EN1, 13 OCS_N1, 14 CRFILT, 15 VDD33, 16 BC_EN2, 17 OCS_N2, 18 BC_EN3, 19 OCS_N3, 20 NC, 21 NC, 22 SDA, 23 VDD33, 24 SCL, 25 HS_IND, 26 RESET_N, 27 VBUS_DET, 28 SUSP_IND, 29 VDDA33, 30 USBDM_UP, 31 USBDP_UP, 32 XTALOUT, 33 XTALIN/CLKIN, 34 PLLFILT, 35 RBIAS, 36 VDDA33, 37 GNDPAD

## USB CON_0
designator J?
footprint USB5
pins: 1 VIN, 2 C1, 3 C2, 4 FLASH, 5 EN, 6 RSET, 7 FB, 8 SGND, 9 PGND, 10 VOUT, 11 GND1

## USB_SOCKET
designator CN?
pins: 1 VBUS, 2 D-, 3 D+, 4 ID, 5 GND, 6 GND1, 7 GND2, 8 GND3, 9 GND4

## USIM_0
designator J?
footprint SOCKET-SIM-LK-SIM437-0615R
pins: 1 I/O, 2 NC, 3 GND, 4 VCC, 5 RST, 6 CLK, 7 G1, 8 G2, 9 G3, 10 G4

## USIM_0_Dup1
designator J?
footprint SOCKET-SIM-LK-SIM437-0615R
pins: 1 I/O, 2 NC, 3 GND, 4 VCC, 5 RST, 6 CLK, 7 G1, 8 G2, 9 G3, 10 G4

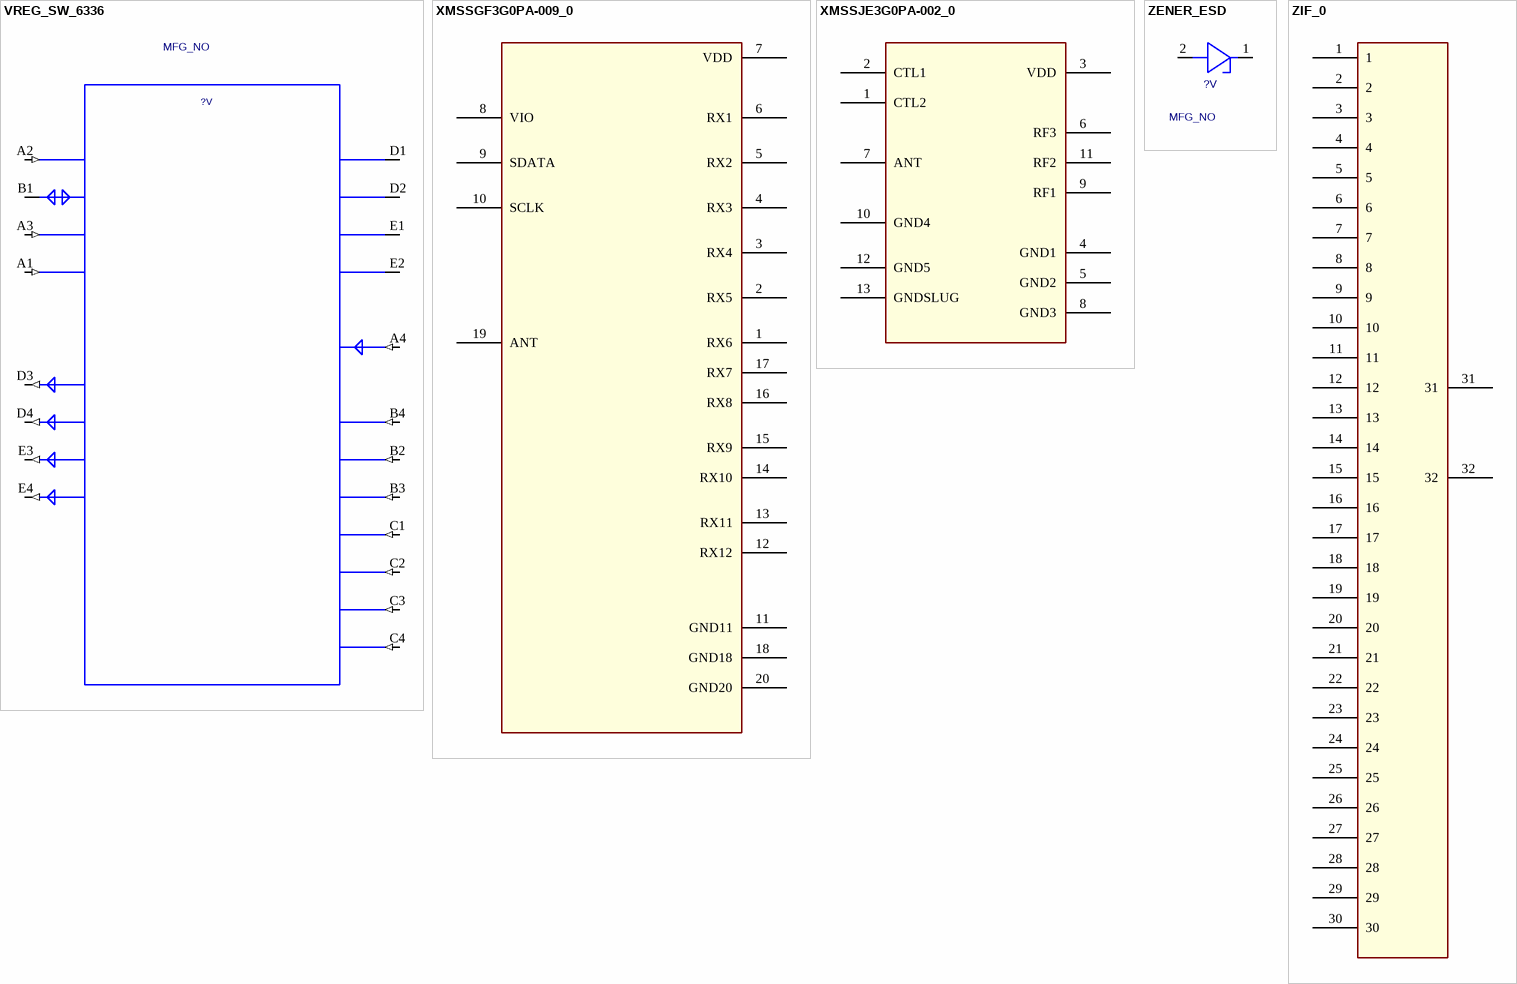
[diagram p31: symbols VREG_SW_6336 to ZIF_0]

## VREG_SW_6336
designator REF?, comment PART_ID: MFG_NO  BLOCKID: ?V  (hidden comment: vreg_sw_6336)
PART_NUMBER: MCN_NO; OriginalSymbolOrigin: (-575,1025); CDS_LMAN_SYM_OUTLINE: -425,1000,425,-1000; SYMNAME: vreg_sw_6336; PACK_TYPE: ?
pins: A1 VSEL (in), A2 EN (in), A3 SCL (in), A4 FB (in), B1 SDA (io), B2 PGND_INTB (in), B3 PGND_PG (in), B4 AGND (in), C1 PGND1 (in), C2 PGND2 (in), C3 PGND3 (in), C4 PGND4 (in), D1 AVIN (power), D2 PVIN1 (power), D3 SW1 (out), D4 SW2 (out), E1 PVIN2 (power), E2 PVIN3 (power), E3 SW3 (out), E4 SW4 (out)

## XMSSGF3G0PA-009_0
designator U?
pins: 1 RX6, 2 RX5, 3 RX4, 4 RX3, 5 RX2, 6 RX1, 7 VDD, 8 VIO, 9 SDATA, 10 SCLK, 11 GND11, 12 RX12, 13 RX11, 14 RX10, 15 RX9, 16 RX8, 17 RX7, 18 GND18, 19 ANT, 20 GND20

## XMSSJE3G0PA-002_0
designator U?
pins: 1 CTL2, 2 CTL1, 3 VDD, 4 GND1, 5 GND2, 6 RF3, 7 ANT, 8 GND3, 9 RF1, 10 GND4, 11 RF2, 12 GND5, 13 GNDSLUG

## ZENER_ESD
designator REF?, comment VOLT: ?V  PART_ID: MFG_NO  (hidden comment: zener_esd)
PART_NUMBER: MCN_NO; OriginalSymbolOrigin: (-75,175); CDS_LMAN_SYM_OUTLINE: -25,175,50,75; SYMNAME: zener_esd; PACK_TYPE: ?
pins: 1 NEG (io), 2 POS (io)

## ZIF_0
designator CON?
pins: 1, 2, 3, 4, 5, 6, 7, 8, 9, 10, 11, 12, 13, 14, 15, 16, 17, 18, 19, 20, 21, 22, 23, 24, 25, 26, 27, 28, 29, 30, 31, 32

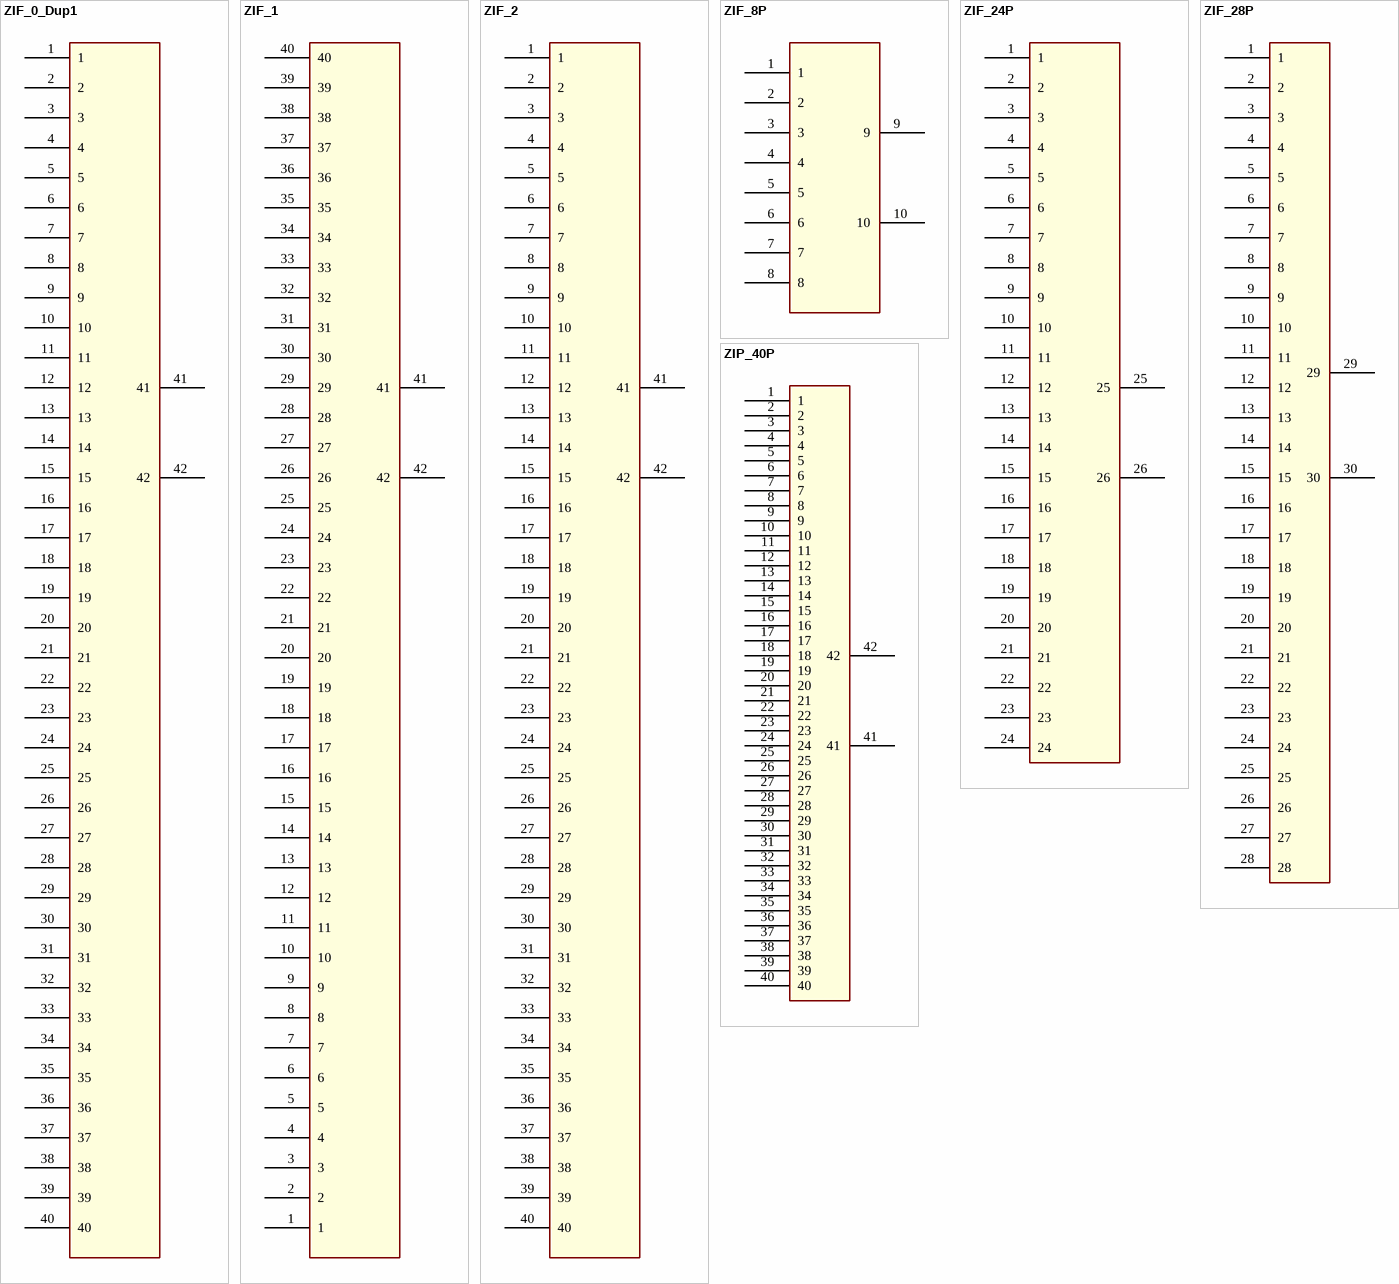
[diagram p32: symbols ZIF_0_Dup1 to ZIP_40P]

## ZIF_0_Dup1
designator CON?
pins: 1, 2, 3, 4, 5, 6, 7, 8, 9, 10, 11, 12, 13, 14, 15, 16, 17, 18, 19, 20, 21, 22, 23, 24, 25, 26, 27, 28, 29, 30, 31, 32, 33, 34, 35, 36, 37, 38, 39, 40, 41, 42

## ZIF_1
designator CON?
pins: 1, 2, 3, 4, 5, 6, 7, 8, 9, 10, 11, 12, 13, 14, 15, 16, 17, 18, 19, 20, 21, 22, 23, 24, 25, 26, 27, 28, 29, 30, 31, 32, 33, 34, 35, 36, 37, 38, 39, 40, 41, 42

## ZIF_2
designator CON?
pins: 1, 2, 3, 4, 5, 6, 7, 8, 9, 10, 11, 12, 13, 14, 15, 16, 17, 18, 19, 20, 21, 22, 23, 24, 25, 26, 27, 28, 29, 30, 31, 32, 33, 34, 35, 36, 37, 38, 39, 40, 41, 42

## ZIF_8P
designator U?
pins: 1, 2, 3, 4, 5, 6, 7, 8, 9, 10

## ZIF_24P
designator CON?
pins: 1, 2, 3, 4, 5, 6, 7, 8, 9, 10, 11, 12, 13, 14, 15, 16, 17, 18, 19, 20, 21, 22, 23, 24, 25, 26

## ZIF_28P
designator U?
pins: 1, 2, 3, 4, 5, 6, 7, 8, 9, 10, 11, 12, 13, 14, 15, 16, 17, 18, 19, 20, 21, 22, 23, 24, 25, 26, 27, 28, 29, 30

## ZIP_40P
designator CON?
footprint ZIP_40P
pins: 1, 2, 3, 4, 5, 6, 7, 8, 9, 10, 11, 12, 13, 14, 15, 16, 17, 18, 19, 20, 21, 22, 23, 24, 25, 26, 27, 28, 29, 30, 31, 32, 33, 34, 35, 36, 37, 38, 39, 40, 41, 42